# Altium integrated library ST Microcontroller 8-Bit.IntLib: 1326 symbols (part 21 of 45)
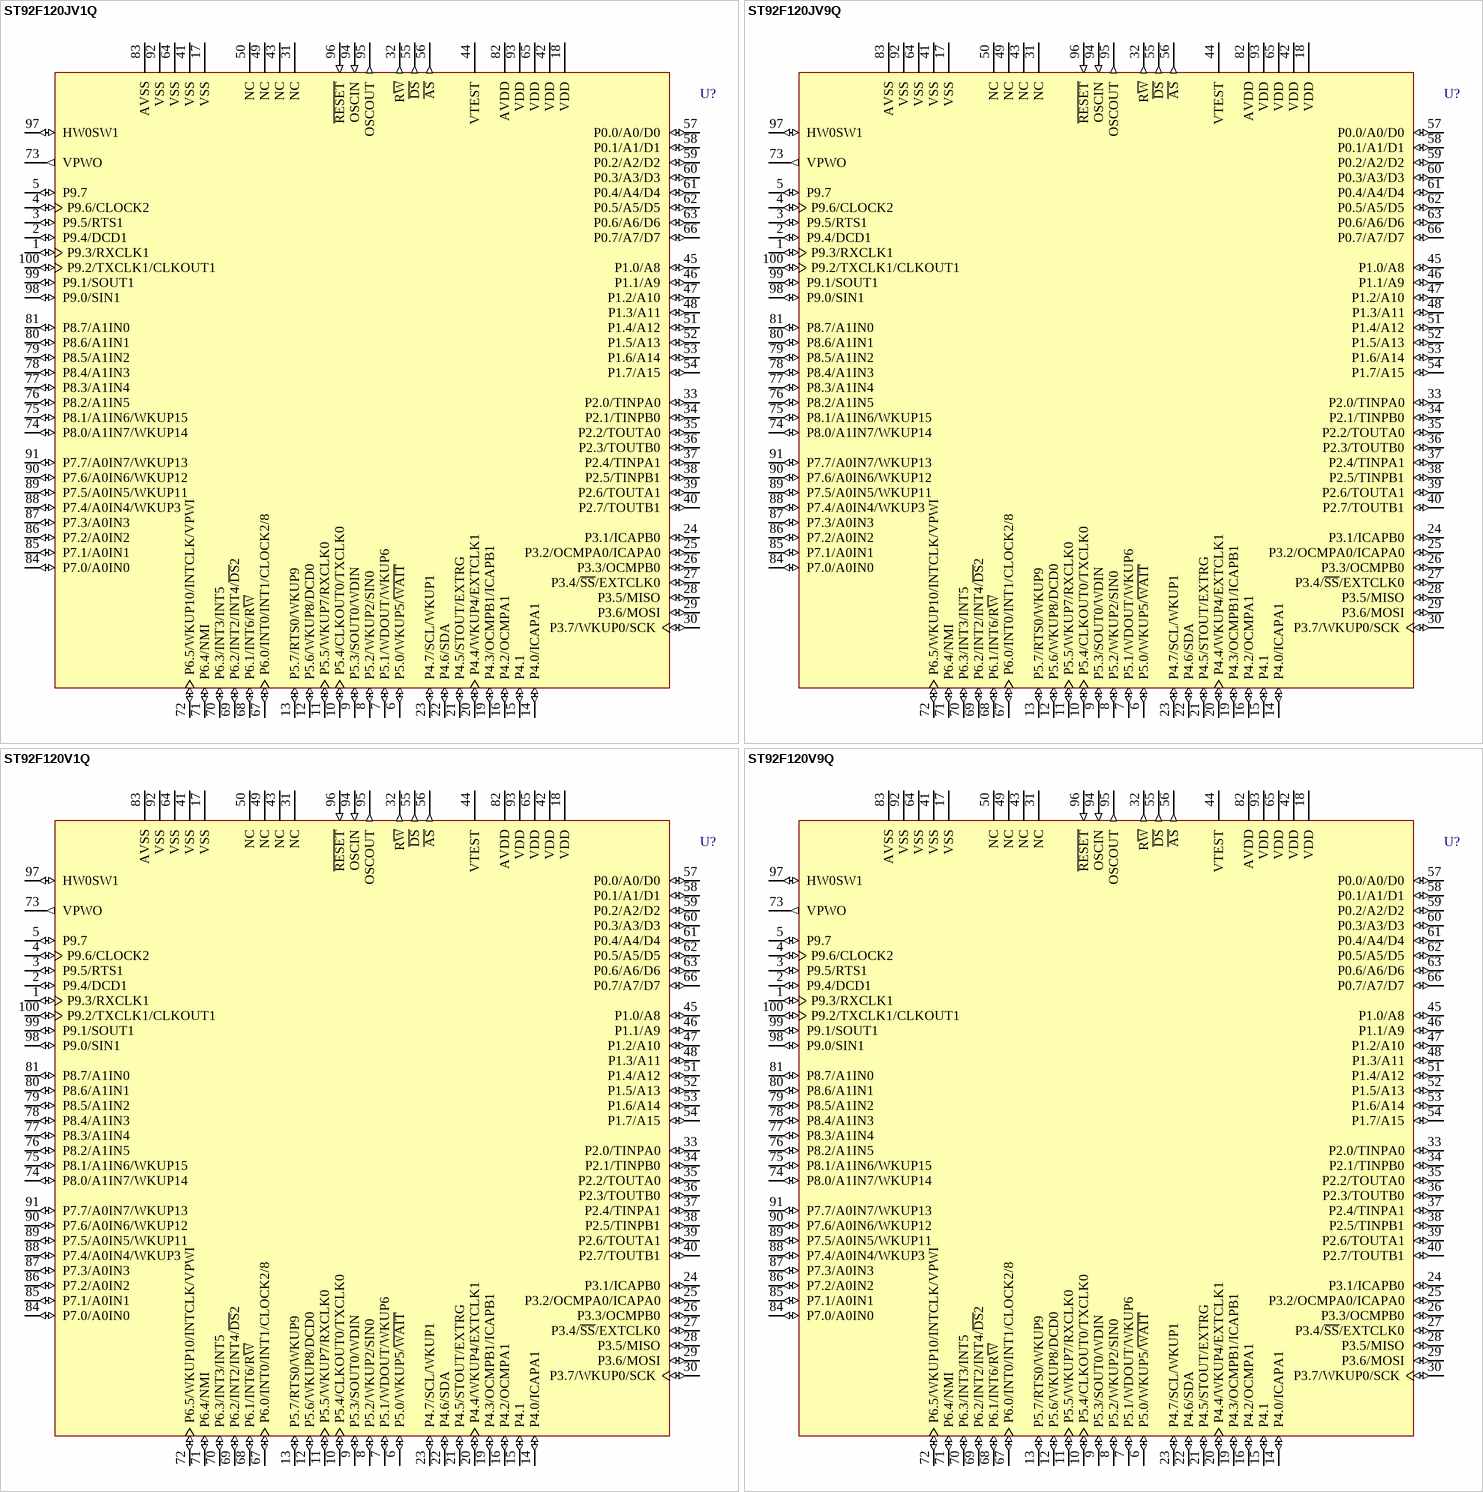
[diagram p187: symbols ST92F120JV1Q to ST92F120V9Q]

## ST92F120JV9Q
designator U?
8/16-Bit MCU with 60k FLASH, 2k RAM, 1k EEPROM and J1850 BLPD, 100-Pin PQFP; Note: VTEST must be kept low in standard operating mode.; Published: 26-May-2004; LatestRevisionDate: 13-Apr-2006; LatestRevisionNote: IPC-7351 Footprint Added.; DatasheetVersion: rev2.6, Sep-2002; PackageVersion: Jun-2003; PackageReference: PQFP100; Publisher: Altium Limited; PackageDescription: 100-Pin Plastic Quad Flat Pack Rectangular 0.65 mm Pitch; Code_IPC: QFP65P1720X2320-100; ComponentLink1Description: Manufacturer Link; ComponentLink1URL: http://www.st.com/
footprint PQFP100_N (QFP, 100-Leads, Body 20x14mm, Pitch 0.65mm, IPC Medium Density)
footprint PQFP100_L (QFP, 100-Leads, Body 20x14mm, Pitch 0.65mm, IPC High Density)
footprint PQFP100_M (QFP, 100-Leads, Body 20x14mm, Pitch 0.65mm, IPC Low Density)
3D model ST92F120-PQFP100 (100-Pin Plastic Quad Flat Pack Rectangular 0.65 mm Pitch)
pins: 1 P9.3/RXCLK1 (io), 2 P9.4/DCD1 (io), 3 P9.5/RTS1 (io), 4 P9.6/CLOCK2 (io), 5 P9.7 (io), 6 P5.0/WKUP5/~{WAIT} (io), 7 P5.1/WDOUT/WKUP6 (io), 8 P5.2/WKUP2/SIN0 (io), 9 P5.3/SOUT0/WDIN (io), 10 P5.4/CLKOUT0/TXCLK0 (io), 11 P5.5/WKUP7/RXCLK0 (io), 12 P5.6/WKUP8/DCD0 (io), 13 P5.7/RTS0/WKUP9 (io), 14 P4.0/ICAPA1 (io), 15 P4.1 (io), 16 P4.2/OCMPA1 (io), 17 VSS (power), 18 VDD (power), 19 P4.3/OCMPB1/ICAPB1 (io), 20 P4.4/WKUP4/EXTCLK1 (io), 21 P4.5/STOUT/EXTRG (io), 22 P4.6/SDA (io), 23 P4.7/SCL/WKUP1 (io), 24 P3.1/ICAPB0 (io), 25 P3.2/OCMPA0/ICAPA0 (io), 26 P3.3/OCMPB0 (io), 27 P3.4/~{SS}/EXTCLK0 (io), 28 P3.5/MISO (io), 29 P3.6/MOSI (io), 30 P3.7/WKUP0/SCK (io), 31 NC, 32 R~{W} (out), 33 P2.0/TINPA0 (io), 34 P2.1/TINPB0 (io), 35 P2.2/TOUTA0 (io), 36 P2.3/TOUTB0 (io), 37 P2.4/TINPA1 (io), 38 P2.5/TINPB1 (io), 39 P2.6/TOUTA1 (io), 40 P2.7/TOUTB1 (io), 41 VSS (power), 42 VDD (power), 43 NC, 44 VTEST (power), 45 P1.0/A8 (io), 46 P1.1/A9 (io), 47 P1.2/A10 (io), 48 P1.3/A11 (io), 49 NC, 50 NC, 51 P1.4/A12 (io), 52 P1.5/A13 (io), 53 P1.6/A14 (io), 54 P1.7/A15 (io), 55 ~{DS} (out), 56 ~{AS} (out), 57 P0.0/A0/D0 (io), 58 P0.1/A1/D1 (io), 59 P0.2/A2/D2 (io), 60 P0.3/A3/D3 (io), 61 P0.4/A4/D4 (io), 62 P0.5/A5/D5 (io), 63 P0.6/A6/D6 (io), 64 VSS (power), 65 VDD (power), 66 P0.7/A7/D7 (io), 67 P6.0/INT0/INT1/CLOCK2/8 (io), 68 P6.1/INT6/R~{W} (io), 69 P6.2/INT2/INT4/~{DS}2 (io), 70 P6.3/INT3/INT5 (io), 71 P6.4/NMI (io), 72 P6.5/WKUP10/INTCLK/VPWI (io), 73 VPWO (out), 74 P8.0/A1IN7/WKUP14 (io), 75 P8.1/A1IN6/WKUP15 (io), 76 P8.2/A1IN5 (io), 77 P8.3/A1IN4 (io), 78 P8.4/A1IN3 (io), 79 P8.5/A1IN2 (io), 80 P8.6/A1IN1 (io), 81 P8.7/A1IN0 (io), 82 AVDD (power), 83 AVSS (power), 84 P7.0/A0IN0 (io), 85 P7.1/A0IN1 (io), 86 P7.2/A0IN2 (io), 87 P7.3/A0IN3 (io), 88 P7.4/A0IN4/WKUP3 (io), 89 P7.5/A0IN5/WKUP11 (io), 90 P7.6/A0IN6/WKUP12 (io), 91 P7.7/A0IN7/WKUP13 (io), 92 VSS (power), 93 VDD (power), 94 OSCIN (in), 95 OSCOUT (out), 96 ~{RESET} (in), 97 HW0SW1 (io), 98 P9.0/SIN1 (io), 99 P9.1/SOUT1 (io), 100 P9.2/TXCLK1/CLKOUT1 (io)

## ST92F120V1Q
designator U?
8/16-Bit MCU with 128k FLASH, 2k RAM and 1k EEPROM, 100-Pin PQFP; Note: VTEST must be kept low in standard operating mode.; Published: 26-May-2004; LatestRevisionDate: 13-Apr-2006; LatestRevisionNote: IPC-7351 Footprint Added.; DatasheetVersion: rev2.6, Sep-2002; PackageVersion: Jun-2003; PackageReference: PQFP100; Publisher: Altium Limited; PackageDescription: 100-Pin Plastic Quad Flat Pack Rectangular 0.65 mm Pitch; Code_IPC: QFP65P1720X2320-100; ComponentLink1Description: Manufacturer Link; ComponentLink1URL: http://www.st.com/
footprint PQFP100_N (QFP, 100-Leads, Body 20x14mm, Pitch 0.65mm, IPC Medium Density)
footprint PQFP100_L (QFP, 100-Leads, Body 20x14mm, Pitch 0.65mm, IPC High Density)
footprint PQFP100_M (QFP, 100-Leads, Body 20x14mm, Pitch 0.65mm, IPC Low Density)
3D model ST92F120-PQFP100 (100-Pin Plastic Quad Flat Pack Rectangular 0.65 mm Pitch)
pins: 1 P9.3/RXCLK1 (io), 2 P9.4/DCD1 (io), 3 P9.5/RTS1 (io), 4 P9.6/CLOCK2 (io), 5 P9.7 (io), 6 P5.0/WKUP5/~{WAIT} (io), 7 P5.1/WDOUT/WKUP6 (io), 8 P5.2/WKUP2/SIN0 (io), 9 P5.3/SOUT0/WDIN (io), 10 P5.4/CLKOUT0/TXCLK0 (io), 11 P5.5/WKUP7/RXCLK0 (io), 12 P5.6/WKUP8/DCD0 (io), 13 P5.7/RTS0/WKUP9 (io), 14 P4.0/ICAPA1 (io), 15 P4.1 (io), 16 P4.2/OCMPA1 (io), 17 VSS (power), 18 VDD (power), 19 P4.3/OCMPB1/ICAPB1 (io), 20 P4.4/WKUP4/EXTCLK1 (io), 21 P4.5/STOUT/EXTRG (io), 22 P4.6/SDA (io), 23 P4.7/SCL/WKUP1 (io), 24 P3.1/ICAPB0 (io), 25 P3.2/OCMPA0/ICAPA0 (io), 26 P3.3/OCMPB0 (io), 27 P3.4/~{SS}/EXTCLK0 (io), 28 P3.5/MISO (io), 29 P3.6/MOSI (io), 30 P3.7/WKUP0/SCK (io), 31 NC, 32 R~{W} (out), 33 P2.0/TINPA0 (io), 34 P2.1/TINPB0 (io), 35 P2.2/TOUTA0 (io), 36 P2.3/TOUTB0 (io), 37 P2.4/TINPA1 (io), 38 P2.5/TINPB1 (io), 39 P2.6/TOUTA1 (io), 40 P2.7/TOUTB1 (io), 41 VSS (power), 42 VDD (power), 43 NC, 44 VTEST (power), 45 P1.0/A8 (io), 46 P1.1/A9 (io), 47 P1.2/A10 (io), 48 P1.3/A11 (io), 49 NC, 50 NC, 51 P1.4/A12 (io), 52 P1.5/A13 (io), 53 P1.6/A14 (io), 54 P1.7/A15 (io), 55 ~{DS} (out), 56 ~{AS} (out), 57 P0.0/A0/D0 (io), 58 P0.1/A1/D1 (io), 59 P0.2/A2/D2 (io), 60 P0.3/A3/D3 (io), 61 P0.4/A4/D4 (io), 62 P0.5/A5/D5 (io), 63 P0.6/A6/D6 (io), 64 VSS (power), 65 VDD (power), 66 P0.7/A7/D7 (io), 67 P6.0/INT0/INT1/CLOCK2/8 (io), 68 P6.1/INT6/R~{W} (io), 69 P6.2/INT2/INT4/~{DS}2 (io), 70 P6.3/INT3/INT5 (io), 71 P6.4/NMI (io), 72 P6.5/WKUP10/INTCLK/VPWI (io), 73 VPWO (out), 74 P8.0/A1IN7/WKUP14 (io), 75 P8.1/A1IN6/WKUP15 (io), 76 P8.2/A1IN5 (io), 77 P8.3/A1IN4 (io), 78 P8.4/A1IN3 (io), 79 P8.5/A1IN2 (io), 80 P8.6/A1IN1 (io), 81 P8.7/A1IN0 (io), 82 AVDD (power), 83 AVSS (power), 84 P7.0/A0IN0 (io), 85 P7.1/A0IN1 (io), 86 P7.2/A0IN2 (io), 87 P7.3/A0IN3 (io), 88 P7.4/A0IN4/WKUP3 (io), 89 P7.5/A0IN5/WKUP11 (io), 90 P7.6/A0IN6/WKUP12 (io), 91 P7.7/A0IN7/WKUP13 (io), 92 VSS (power), 93 VDD (power), 94 OSCIN (in), 95 OSCOUT (out), 96 ~{RESET} (in), 97 HW0SW1 (io), 98 P9.0/SIN1 (io), 99 P9.1/SOUT1 (io), 100 P9.2/TXCLK1/CLKOUT1 (io)

## ST92F120V9Q
designator U?
8/16-Bit MCU with 60k FLASH, 2k RAM and 1k EEPROM, 100-Pin PQFP; Note: VTEST must be kept low in standard operating mode.; Published: 26-May-2004; LatestRevisionDate: 13-Apr-2006; LatestRevisionNote: IPC-7351 Footprint Added.; DatasheetVersion: rev2.6, Sep-2002; PackageVersion: Jun-2003; PackageReference: PQFP100; Publisher: Altium Limited; PackageDescription: 100-Pin Plastic Quad Flat Pack Rectangular 0.65 mm Pitch; Code_IPC: QFP65P1720X2320-100; ComponentLink1Description: Manufacturer Link; ComponentLink1URL: http://www.st.com/
footprint PQFP100_N (QFP, 100-Leads, Body 20x14mm, Pitch 0.65mm, IPC Medium Density)
footprint PQFP100_L (QFP, 100-Leads, Body 20x14mm, Pitch 0.65mm, IPC High Density)
footprint PQFP100_M (QFP, 100-Leads, Body 20x14mm, Pitch 0.65mm, IPC Low Density)
3D model ST92F120-PQFP100 (100-Pin Plastic Quad Flat Pack Rectangular 0.65 mm Pitch)
pins: 1 P9.3/RXCLK1 (io), 2 P9.4/DCD1 (io), 3 P9.5/RTS1 (io), 4 P9.6/CLOCK2 (io), 5 P9.7 (io), 6 P5.0/WKUP5/~{WAIT} (io), 7 P5.1/WDOUT/WKUP6 (io), 8 P5.2/WKUP2/SIN0 (io), 9 P5.3/SOUT0/WDIN (io), 10 P5.4/CLKOUT0/TXCLK0 (io), 11 P5.5/WKUP7/RXCLK0 (io), 12 P5.6/WKUP8/DCD0 (io), 13 P5.7/RTS0/WKUP9 (io), 14 P4.0/ICAPA1 (io), 15 P4.1 (io), 16 P4.2/OCMPA1 (io), 17 VSS (power), 18 VDD (power), 19 P4.3/OCMPB1/ICAPB1 (io), 20 P4.4/WKUP4/EXTCLK1 (io), 21 P4.5/STOUT/EXTRG (io), 22 P4.6/SDA (io), 23 P4.7/SCL/WKUP1 (io), 24 P3.1/ICAPB0 (io), 25 P3.2/OCMPA0/ICAPA0 (io), 26 P3.3/OCMPB0 (io), 27 P3.4/~{SS}/EXTCLK0 (io), 28 P3.5/MISO (io), 29 P3.6/MOSI (io), 30 P3.7/WKUP0/SCK (io), 31 NC, 32 R~{W} (out), 33 P2.0/TINPA0 (io), 34 P2.1/TINPB0 (io), 35 P2.2/TOUTA0 (io), 36 P2.3/TOUTB0 (io), 37 P2.4/TINPA1 (io), 38 P2.5/TINPB1 (io), 39 P2.6/TOUTA1 (io), 40 P2.7/TOUTB1 (io), 41 VSS (power), 42 VDD (power), 43 NC, 44 VTEST (power), 45 P1.0/A8 (io), 46 P1.1/A9 (io), 47 P1.2/A10 (io), 48 P1.3/A11 (io), 49 NC, 50 NC, 51 P1.4/A12 (io), 52 P1.5/A13 (io), 53 P1.6/A14 (io), 54 P1.7/A15 (io), 55 ~{DS} (out), 56 ~{AS} (out), 57 P0.0/A0/D0 (io), 58 P0.1/A1/D1 (io), 59 P0.2/A2/D2 (io), 60 P0.3/A3/D3 (io), 61 P0.4/A4/D4 (io), 62 P0.5/A5/D5 (io), 63 P0.6/A6/D6 (io), 64 VSS (power), 65 VDD (power), 66 P0.7/A7/D7 (io), 67 P6.0/INT0/INT1/CLOCK2/8 (io), 68 P6.1/INT6/R~{W} (io), 69 P6.2/INT2/INT4/~{DS}2 (io), 70 P6.3/INT3/INT5 (io), 71 P6.4/NMI (io), 72 P6.5/WKUP10/INTCLK/VPWI (io), 73 VPWO (out), 74 P8.0/A1IN7/WKUP14 (io), 75 P8.1/A1IN6/WKUP15 (io), 76 P8.2/A1IN5 (io), 77 P8.3/A1IN4 (io), 78 P8.4/A1IN3 (io), 79 P8.5/A1IN2 (io), 80 P8.6/A1IN1 (io), 81 P8.7/A1IN0 (io), 82 AVDD (power), 83 AVSS (power), 84 P7.0/A0IN0 (io), 85 P7.1/A0IN1 (io), 86 P7.2/A0IN2 (io), 87 P7.3/A0IN3 (io), 88 P7.4/A0IN4/WKUP3 (io), 89 P7.5/A0IN5/WKUP11 (io), 90 P7.6/A0IN6/WKUP12 (io), 91 P7.7/A0IN7/WKUP13 (io), 92 VSS (power), 93 VDD (power), 94 OSCIN (in), 95 OSCOUT (out), 96 ~{RESET} (in), 97 HW0SW1 (io), 98 P9.0/SIN1 (io), 99 P9.1/SOUT1 (io), 100 P9.2/TXCLK1/CLKOUT1 (io)

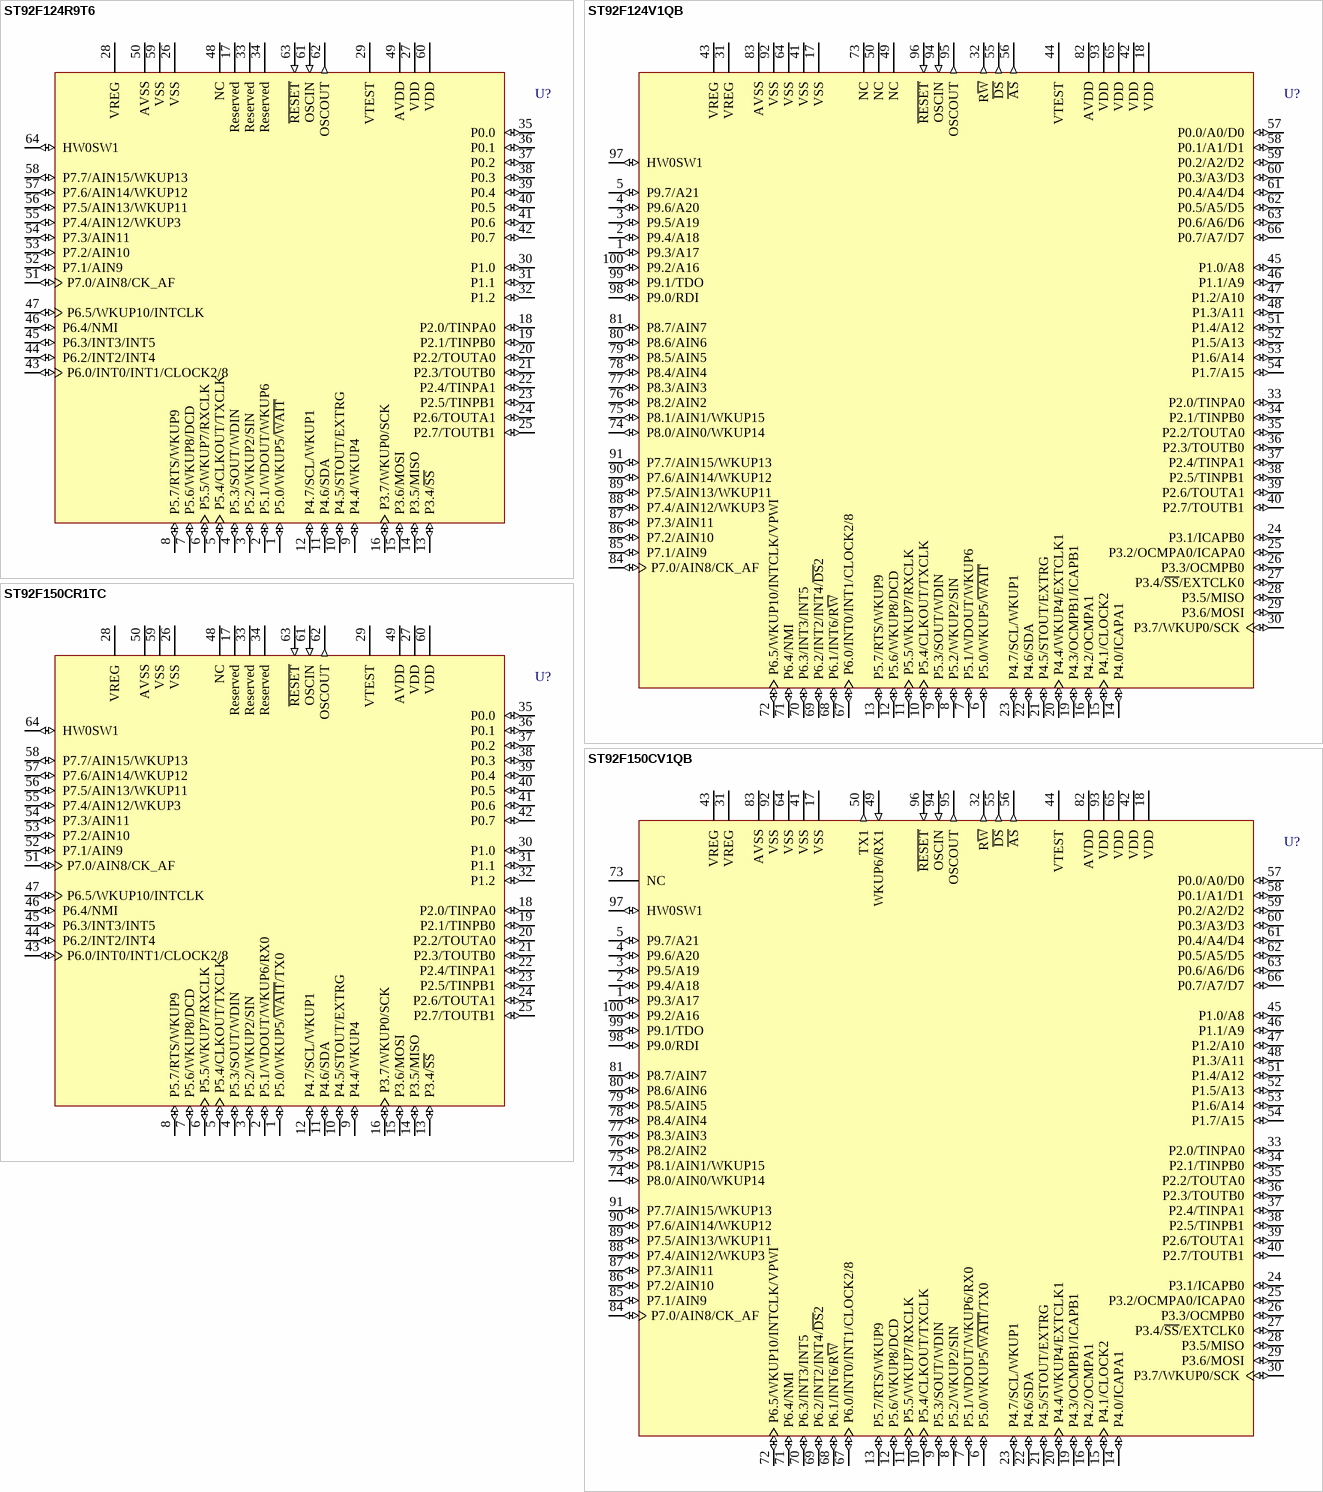
[diagram p73: symbols ST92F124R9T6 to ST92F150CV1QB]

## ST92F124R9T6
designator U?
8/16-Bit MCU with 64k Single Voltage FLASH Memory, 2k RAM, 1k E³PROM, ADC, Timers, SPI, I²C and SCI, 64-Pin TQFP; Note: Pins 17, 33 and 34 are reserved for ST tests.  Leave unconnected.; Published: 26-May-2004; LatestRevisionDate: 13-Apr-2006; LatestRevisionNote: IPC-7351 Footprint Added.; DatasheetVersion: rev1.3, Dec-2002; PackageVersion: rev2.4, Jan-2002; PackageReference: TQFP64-0.8; Publisher: Altium Limited; PackageDescription: 64-Pin Thin Quad Flat Pack 0.8 mm Pitch; ComponentLink1Description: Manufacturer Link; ComponentLink1URL: http://www.st.com/; ComponentLink2Description: Datasheet; ComponentLink2URL: http://www.st.com/stonline/products/literature/ds/8848/st92f124.pdf
footprint TQFP64-0.8_N (Thin QFP, 64-Leads, Body 14x14mm, Pitch 0.8mm, IPC Medium Density)
footprint TQFP64-0.8_L (Thin QFP, 64-Leads, Body 14x14mm, Pitch 0.8mm, IPC High Density)
footprint TQFP64-0.8_M (Thin QFP, 64-Leads, Body 14x14mm, Pitch 0.8mm, IPC Low Density)
3D model ST92F124-TQFP64-0_8 (64-Pin Thin Quad Flat Pack 0.8 mm Pitch)
pins: 1 P5.0/WKUP5/~{WAIT} (io), 2 P5.1/WDOUT/WKUP6 (io), 3 P5.2/WKUP2/SIN (io), 4 P5.3/SOUT/WDIN (io), 5 P5.4/CLKOUT/TXCLK (io), 6 P5.5/WKUP7/RXCLK (io), 7 P5.6/WKUP8/DCD (io), 8 P5.7/RTS/WKUP9 (io), 9 P4.4/WKUP4 (io), 10 P4.5/STOUT/EXTRG (io), 11 P4.6/SDA (io), 12 P4.7/SCL/WKUP1 (io), 13 P3.4/~{SS} (io), 14 P3.5/MISO (io), 15 P3.6/MOSI (io), 16 P3.7/WKUP0/SCK (io), 17 Reserved, 18 P2.0/TINPA0 (io), 19 P2.1/TINPB0 (io), 20 P2.2/TOUTA0 (io), 21 P2.3/TOUTB0 (io), 22 P2.4/TINPA1 (io), 23 P2.5/TINPB1 (io), 24 P2.6/TOUTA1 (io), 25 P2.7/TOUTB1 (io), 26 VSS (power), 27 VDD (power), 28 VREG (power), 29 VTEST (power), 30 P1.0 (io), 31 P1.1 (io), 32 P1.2 (io), 33 Reserved, 34 Reserved, 35 P0.0 (io), 36 P0.1 (io), 37 P0.2 (io), 38 P0.3 (io), 39 P0.4 (io), 40 P0.5 (io), 41 P0.6 (io), 42 P0.7 (io), 43 P6.0/INT0/INT1/CLOCK2/8 (io), 44 P6.2/INT2/INT4 (io), 45 P6.3/INT3/INT5 (io), 46 P6.4/NMI (io), 47 P6.5/WKUP10/INTCLK (io), 48 NC, 49 AVDD (power), 50 AVSS (power), 51 P7.0/AIN8/CK_AF (io), 52 P7.1/AIN9 (io), 53 P7.2/AIN10 (io), 54 P7.3/AIN11 (io), 55 P7.4/AIN12/WKUP3 (io), 56 P7.5/AIN13/WKUP11 (io), 57 P7.6/AIN14/WKUP12 (io), 58 P7.7/AIN15/WKUP13 (io), 59 VSS (power), 60 VDD (power), 61 OSCIN (in), 62 OSCOUT (out), 63 ~{RESET} (in), 64 HW0SW1 (io)

## ST92F124V1QB
designator U?
8/16-Bit MCU with 128k Single Voltage FLASH Memory, 4k RAM, 1k E³PROM, ADC, Timers, SPI, I²C and SCI, 100-Pin PQFP; Note: VTEST must be kept low in standard operating mode.; Published: 26-May-2004; LatestRevisionDate: 13-Apr-2006; LatestRevisionNote: IPC-7351 Footprint Added.; DatasheetVersion: rev1.3, Dec-2002; PackageVersion: Jun-2003; PackageReference: PQFP100; Publisher: Altium Limited; PackageDescription: 100-Pin Plastic Quad Flat Pack Rectangular 0.65 mm Pitch; Code_IPC: QFP65P1720X2320-100; ComponentLink1Description: Manufacturer Link; ComponentLink1URL: http://www.st.com/; ComponentLink2Description: Datasheet; ComponentLink2URL: http://www.st.com/stonline/products/literature/ds/8848/st92f124.pdf
footprint PQFP100_N (QFP, 100-Leads, Body 20x14mm, Pitch 0.65mm, IPC Medium Density)
footprint PQFP100_L (QFP, 100-Leads, Body 20x14mm, Pitch 0.65mm, IPC High Density)
footprint PQFP100_M (QFP, 100-Leads, Body 20x14mm, Pitch 0.65mm, IPC Low Density)
3D model ST92F124-PQFP100 (100-Pin Plastic Quad Flat Pack Rectangular 0.65 mm Pitch)
pins: 1 P9.3/A17 (io), 2 P9.4/A18 (io), 3 P9.5/A19 (io), 4 P9.6/A20 (io), 5 P9.7/A21 (io), 6 P5.0/WKUP5/~{WAIT} (io), 7 P5.1/WDOUT/WKUP6 (io), 8 P5.2/WKUP2/SIN (io), 9 P5.3/SOUT/WDIN (io), 10 P5.4/CLKOUT/TXCLK (io), 11 P5.5/WKUP7/RXCLK (io), 12 P5.6/WKUP8/DCD (io), 13 P5.7/RTS/WKUP9 (io), 14 P4.0/ICAPA1 (io), 15 P4.1/CLOCK2 (io), 16 P4.2/OCMPA1 (io), 17 VSS (power), 18 VDD (power), 19 P4.3/OCMPB1/ICAPB1 (io), 20 P4.4/WKUP4/EXTCLK1 (io), 21 P4.5/STOUT/EXTRG (io), 22 P4.6/SDA (io), 23 P4.7/SCL/WKUP1 (io), 24 P3.1/ICAPB0 (io), 25 P3.2/OCMPA0/ICAPA0 (io), 26 P3.3/OCMPB0 (io), 27 P3.4/~{SS}/EXTCLK0 (io), 28 P3.5/MISO (io), 29 P3.6/MOSI (io), 30 P3.7/WKUP0/SCK (io), 31 VREG (power), 32 R~{W} (out), 33 P2.0/TINPA0 (io), 34 P2.1/TINPB0 (io), 35 P2.2/TOUTA0 (io), 36 P2.3/TOUTB0 (io), 37 P2.4/TINPA1 (io), 38 P2.5/TINPB1 (io), 39 P2.6/TOUTA1 (io), 40 P2.7/TOUTB1 (io), 41 VSS (power), 42 VDD (power), 43 VREG (power), 44 VTEST (power), 45 P1.0/A8 (io), 46 P1.1/A9 (io), 47 P1.2/A10 (io), 48 P1.3/A11 (io), 49 NC, 50 NC, 51 P1.4/A12 (io), 52 P1.5/A13 (io), 53 P1.6/A14 (io), 54 P1.7/A15 (io), 55 ~{DS} (out), 56 ~{AS} (out), 57 P0.0/A0/D0 (io), 58 P0.1/A1/D1 (io), 59 P0.2/A2/D2 (io), 60 P0.3/A3/D3 (io), 61 P0.4/A4/D4 (io), 62 P0.5/A5/D5 (io), 63 P0.6/A6/D6 (io), 64 VSS (power), 65 VDD (power), 66 P0.7/A7/D7 (io), 67 P6.0/INT0/INT1/CLOCK2/8 (io), 68 P6.1/INT6/R~{W} (io), 69 P6.2/INT2/INT4/~{DS}2 (io), 70 P6.3/INT3/INT5 (io), 71 P6.4/NMI (io), 72 P6.5/WKUP10/INTCLK/VPWI (io), 73 NC, 74 P8.0/AIN0/WKUP14 (io), 75 P8.1/AIN1/WKUP15 (io), 76 P8.2/AIN2 (io), 77 P8.3/AIN3 (io), 78 P8.4/AIN4 (io), 79 P8.5/AIN5 (io), 80 P8.6/AIN6 (io), 81 P8.7/AIN7 (io), 82 AVDD (power), 83 AVSS (power), 84 P7.0/AIN8/CK_AF (io), 85 P7.1/AIN9 (io), 86 P7.2/AIN10 (io), 87 P7.3/AIN11 (io), 88 P7.4/AIN12/WKUP3 (io), 89 P7.5/AIN13/WKUP11 (io), 90 P7.6/AIN14/WKUP12 (io), 91 P7.7/AIN15/WKUP13 (io), 92 VSS (power), 93 VDD (power), 94 OSCIN (in), 95 OSCOUT (out), 96 ~{RESET} (in), 97 HW0SW1 (io), 98 P9.0/RDI (io), 99 P9.1/TDO (io), 100 P9.2/A16 (io)

## ST92F150CR1TC
designator U?
8/16-Bit MCU with 128k Single Voltage FLASH Memory, 4k RAM, 1k E³PROM, ADC, CAN, Timers, SPI, I²C and SCI, 64-Pin TQFP; Note: Pins 17, 33 and 34 are reserved for ST tests.  Leave unconnected.; Published: 26-May-2004; LatestRevisionDate: 13-Apr-2006; LatestRevisionNote: IPC-7351 Footprint Added.; DatasheetVersion: rev1.3, Dec-2002; PackageVersion: rev2.4, Jan-2002; PackageReference: TQFP64-0.8; Publisher: Altium Limited; PackageDescription: 64-Pin Thin Quad Flat Pack 0.8 mm Pitch; ComponentLink1Description: Manufacturer Link; ComponentLink1URL: http://www.st.com/; ComponentLink2Description: Datasheet; ComponentLink2URL: http://www.st.com/stonline/products/literature/ds/8848/st92f150.pdf
footprint TQFP64-0.8_N (Thin QFP, 64-Leads, Body 14x14mm, Pitch 0.8mm, IPC Medium Density)
footprint TQFP64-0.8_L (Thin QFP, 64-Leads, Body 14x14mm, Pitch 0.8mm, IPC High Density)
footprint TQFP64-0.8_M (Thin QFP, 64-Leads, Body 14x14mm, Pitch 0.8mm, IPC Low Density)
3D model ST92F150-TQFP64-0_8 (64-Pin Thin Quad Flat Pack 0.8 mm Pitch)
pins: 1 P5.0/WKUP5/~{WAIT}/TX0 (io), 2 P5.1/WDOUT/WKUP6/RX0 (io), 3 P5.2/WKUP2/SIN (io), 4 P5.3/SOUT/WDIN (io), 5 P5.4/CLKOUT/TXCLK (io), 6 P5.5/WKUP7/RXCLK (io), 7 P5.6/WKUP8/DCD (io), 8 P5.7/RTS/WKUP9 (io), 9 P4.4/WKUP4 (io), 10 P4.5/STOUT/EXTRG (io), 11 P4.6/SDA (io), 12 P4.7/SCL/WKUP1 (io), 13 P3.4/~{SS} (io), 14 P3.5/MISO (io), 15 P3.6/MOSI (io), 16 P3.7/WKUP0/SCK (io), 17 Reserved, 18 P2.0/TINPA0 (io), 19 P2.1/TINPB0 (io), 20 P2.2/TOUTA0 (io), 21 P2.3/TOUTB0 (io), 22 P2.4/TINPA1 (io), 23 P2.5/TINPB1 (io), 24 P2.6/TOUTA1 (io), 25 P2.7/TOUTB1 (io), 26 VSS (power), 27 VDD (power), 28 VREG (power), 29 VTEST (power), 30 P1.0 (io), 31 P1.1 (io), 32 P1.2 (io), 33 Reserved, 34 Reserved, 35 P0.0 (io), 36 P0.1 (io), 37 P0.2 (io), 38 P0.3 (io), 39 P0.4 (io), 40 P0.5 (io), 41 P0.6 (io), 42 P0.7 (io), 43 P6.0/INT0/INT1/CLOCK2/8 (io), 44 P6.2/INT2/INT4 (io), 45 P6.3/INT3/INT5 (io), 46 P6.4/NMI (io), 47 P6.5/WKUP10/INTCLK (io), 48 NC, 49 AVDD (power), 50 AVSS (power), 51 P7.0/AIN8/CK_AF (io), 52 P7.1/AIN9 (io), 53 P7.2/AIN10 (io), 54 P7.3/AIN11 (io), 55 P7.4/AIN12/WKUP3 (io), 56 P7.5/AIN13/WKUP11 (io), 57 P7.6/AIN14/WKUP12 (io), 58 P7.7/AIN15/WKUP13 (io), 59 VSS (power), 60 VDD (power), 61 OSCIN (in), 62 OSCOUT (out), 63 ~{RESET} (in), 64 HW0SW1 (io)

## ST92F150CV1QB
designator U?
8/16-Bit MCU with 128k Single Voltage FLASH Memory, 4k RAM, 1k E³PROM, ADC, CAN, Timers, SPI, I²C and SCI, 100-Pin PQFP; Note: VTEST must be kept low in standard operating mode.; Published: 26-May-2004; LatestRevisionDate: 13-Apr-2006; LatestRevisionNote: IPC-7351 Footprint Added.; DatasheetVersion: rev1.3, Dec-2002; PackageVersion: Jun-2003; PackageReference: PQFP100; Publisher: Altium Limited; PackageDescription: 100-Pin Plastic Quad Flat Pack Rectangular 0.65 mm Pitch; Code_IPC: QFP65P1720X2320-100; ComponentLink1Description: Manufacturer Link; ComponentLink1URL: http://www.st.com/; ComponentLink2Description: Datasheet; ComponentLink2URL: http://www.st.com/stonline/products/literature/ds/8848/st92f150.pdf
footprint PQFP100_N (QFP, 100-Leads, Body 20x14mm, Pitch 0.65mm, IPC Medium Density)
footprint PQFP100_L (QFP, 100-Leads, Body 20x14mm, Pitch 0.65mm, IPC High Density)
footprint PQFP100_M (QFP, 100-Leads, Body 20x14mm, Pitch 0.65mm, IPC Low Density)
3D model ST92F150-PQFP100 (100-Pin Plastic Quad Flat Pack Rectangular 0.65 mm Pitch)
pins: 1 P9.3/A17 (io), 2 P9.4/A18 (io), 3 P9.5/A19 (io), 4 P9.6/A20 (io), 5 P9.7/A21 (io), 6 P5.0/WKUP5/~{WAIT}/TX0 (io), 7 P5.1/WDOUT/WKUP6/RX0 (io), 8 P5.2/WKUP2/SIN (io), 9 P5.3/SOUT/WDIN (io), 10 P5.4/CLKOUT/TXCLK (io), 11 P5.5/WKUP7/RXCLK (io), 12 P5.6/WKUP8/DCD (io), 13 P5.7/RTS/WKUP9 (io), 14 P4.0/ICAPA1 (io), 15 P4.1/CLOCK2 (io), 16 P4.2/OCMPA1 (io), 17 VSS (power), 18 VDD (power), 19 P4.3/OCMPB1/ICAPB1 (io), 20 P4.4/WKUP4/EXTCLK1 (io), 21 P4.5/STOUT/EXTRG (io), 22 P4.6/SDA (io), 23 P4.7/SCL/WKUP1 (io), 24 P3.1/ICAPB0 (io), 25 P3.2/OCMPA0/ICAPA0 (io), 26 P3.3/OCMPB0 (io), 27 P3.4/~{SS}/EXTCLK0 (io), 28 P3.5/MISO (io), 29 P3.6/MOSI (io), 30 P3.7/WKUP0/SCK (io), 31 VREG (power), 32 R~{W} (out), 33 P2.0/TINPA0 (io), 34 P2.1/TINPB0 (io), 35 P2.2/TOUTA0 (io), 36 P2.3/TOUTB0 (io), 37 P2.4/TINPA1 (io), 38 P2.5/TINPB1 (io), 39 P2.6/TOUTA1 (io), 40 P2.7/TOUTB1 (io), 41 VSS (power), 42 VDD (power), 43 VREG (power), 44 VTEST (power), 45 P1.0/A8 (io), 46 P1.1/A9 (io), 47 P1.2/A10 (io), 48 P1.3/A11 (io), 49 WKUP6/RX1 (in), 50 TX1 (out), 51 P1.4/A12 (io), 52 P1.5/A13 (io), 53 P1.6/A14 (io), 54 P1.7/A15 (io), 55 ~{DS} (out), 56 ~{AS} (out), 57 P0.0/A0/D0 (io), 58 P0.1/A1/D1 (io), 59 P0.2/A2/D2 (io), 60 P0.3/A3/D3 (io), 61 P0.4/A4/D4 (io), 62 P0.5/A5/D5 (io), 63 P0.6/A6/D6 (io), 64 VSS (power), 65 VDD (power), 66 P0.7/A7/D7 (io), 67 P6.0/INT0/INT1/CLOCK2/8 (io), 68 P6.1/INT6/R~{W} (io), 69 P6.2/INT2/INT4/~{DS}2 (io), 70 P6.3/INT3/INT5 (io), 71 P6.4/NMI (io), 72 P6.5/WKUP10/INTCLK/VPWI (io), 73 NC, 74 P8.0/AIN0/WKUP14 (io), 75 P8.1/AIN1/WKUP15 (io), 76 P8.2/AIN2 (io), 77 P8.3/AIN3 (io), 78 P8.4/AIN4 (io), 79 P8.5/AIN5 (io), 80 P8.6/AIN6 (io), 81 P8.7/AIN7 (io), 82 AVDD (power), 83 AVSS (power), 84 P7.0/AIN8/CK_AF (io), 85 P7.1/AIN9 (io), 86 P7.2/AIN10 (io), 87 P7.3/AIN11 (io), 88 P7.4/AIN12/WKUP3 (io), 89 P7.5/AIN13/WKUP11 (io), 90 P7.6/AIN14/WKUP12 (io), 91 P7.7/AIN15/WKUP13 (io), 92 VSS (power), 93 VDD (power), 94 OSCIN (in), 95 OSCOUT (out), 96 ~{RESET} (in), 97 HW0SW1 (io), 98 P9.0/RDI (io), 99 P9.1/TDO (io), 100 P9.2/A16 (io)

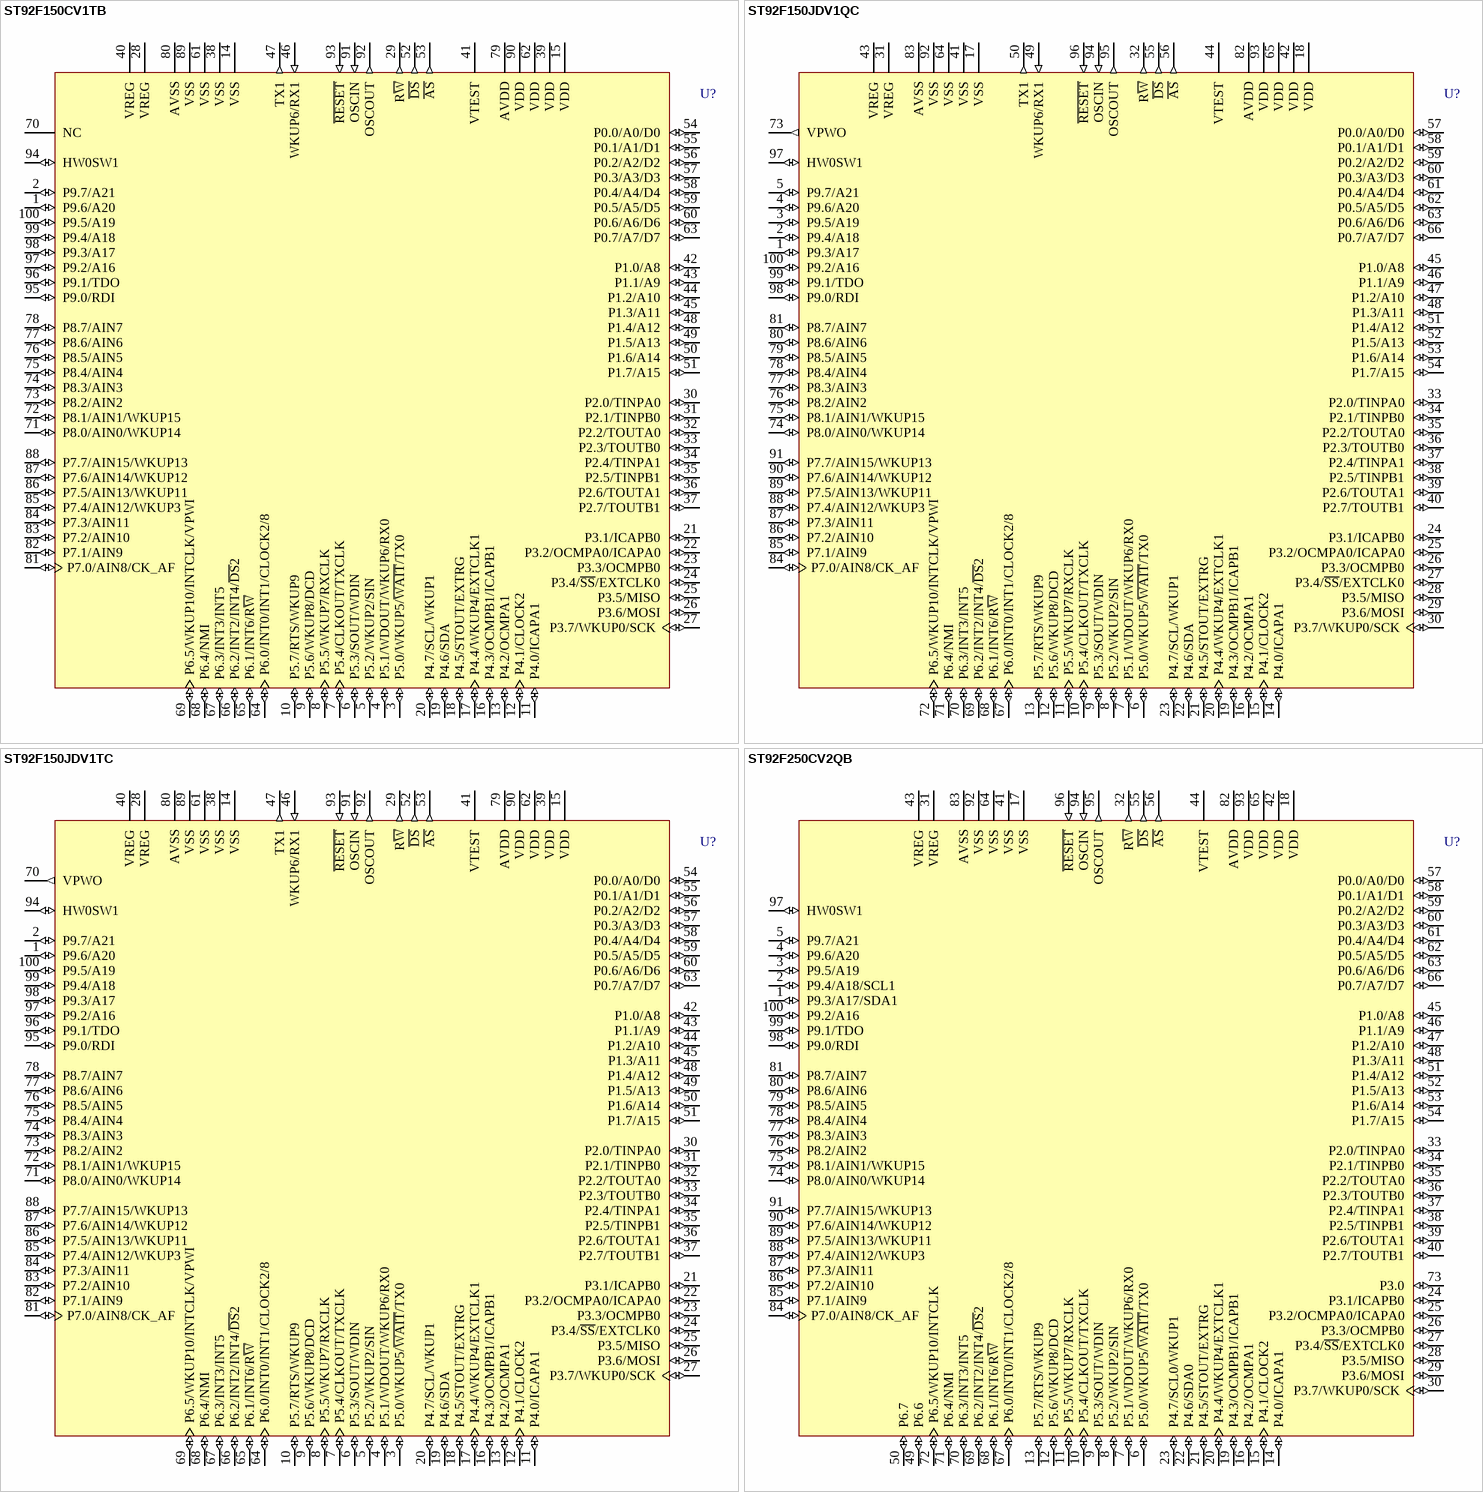
[diagram p74: symbols ST92F150CV1TB to ST92F250CV2QB]

## ST92F150CV1TB
designator U?
8/16-Bit MCU with 128k Single Voltage FLASH Memory, 4k RAM, 1k E³PROM, ADC, CAN, Timers, SPI, I²C and SCI, 100-Pin TQFP; Note: VTEST must be kept low in standard operating mode.; Published: 26-May-2004; LatestRevisionDate: 13-Apr-2006; LatestRevisionNote: IPC-7351 Footprint Added.; DatasheetVersion: rev1.3, Dec-2002; PackageVersion: Dec-2002; PackageReference: TQFP100; Publisher: Altium Limited; PackageDescription: 100-Pin Thin Quad Flat Pack 0.5 mm Pitch; ComponentLink1Description: Manufacturer Link; ComponentLink1URL: http://www.st.com/; ComponentLink2Description: Datasheet; ComponentLink2URL: http://www.st.com/stonline/products/literature/ds/8848/st92f150.pdf
footprint TQFP100_N (Thin QFP, 100-Leads, Body 14x14mm, Pitch 0.5mm, IPC Medium Density)
footprint TQFP100_L (Thin QFP, 100-Leads, Body 14x14mm, Pitch 0.5mm, IPC High Density)
footprint TQFP100_M (Thin QFP, 100-Leads, Body 14x14mm, Pitch 0.5mm, IPC Low Density)
3D model ST92F150-TQFP100 (100-Pin Thin Quad Flat Pack 0.5 mm Pitch)
pins: 1 P9.6/A20 (io), 2 P9.7/A21 (io), 3 P5.0/WKUP5/~{WAIT}/TX0 (io), 4 P5.1/WDOUT/WKUP6/RX0 (io), 5 P5.2/WKUP2/SIN (io), 6 P5.3/SOUT/WDIN (io), 7 P5.4/CLKOUT/TXCLK (io), 8 P5.5/WKUP7/RXCLK (io), 9 P5.6/WKUP8/DCD (io), 10 P5.7/RTS/WKUP9 (io), 11 P4.0/ICAPA1 (io), 12 P4.1/CLOCK2 (io), 13 P4.2/OCMPA1 (io), 14 VSS (power), 15 VDD (power), 16 P4.3/OCMPB1/ICAPB1 (io), 17 P4.4/WKUP4/EXTCLK1 (io), 18 P4.5/STOUT/EXTRG (io), 19 P4.6/SDA (io), 20 P4.7/SCL/WKUP1 (io), 21 P3.1/ICAPB0 (io), 22 P3.2/OCMPA0/ICAPA0 (io), 23 P3.3/OCMPB0 (io), 24 P3.4/~{SS}/EXTCLK0 (io), 25 P3.5/MISO (io), 26 P3.6/MOSI (io), 27 P3.7/WKUP0/SCK (io), 28 VREG (power), 29 R~{W} (out), 30 P2.0/TINPA0 (io), 31 P2.1/TINPB0 (io), 32 P2.2/TOUTA0 (io), 33 P2.3/TOUTB0 (io), 34 P2.4/TINPA1 (io), 35 P2.5/TINPB1 (io), 36 P2.6/TOUTA1 (io), 37 P2.7/TOUTB1 (io), 38 VSS (power), 39 VDD (power), 40 VREG (power), 41 VTEST (power), 42 P1.0/A8 (io), 43 P1.1/A9 (io), 44 P1.2/A10 (io), 45 P1.3/A11 (io), 46 WKUP6/RX1 (in), 47 TX1 (out), 48 P1.4/A12 (io), 49 P1.5/A13 (io), 50 P1.6/A14 (io), 51 P1.7/A15 (io), 52 ~{DS} (out), 53 ~{AS} (out), 54 P0.0/A0/D0 (io), 55 P0.1/A1/D1 (io), 56 P0.2/A2/D2 (io), 57 P0.3/A3/D3 (io), 58 P0.4/A4/D4 (io), 59 P0.5/A5/D5 (io), 60 P0.6/A6/D6 (io), 61 VSS (power), 62 VDD (power), 63 P0.7/A7/D7 (io), 64 P6.0/INT0/INT1/CLOCK2/8 (io), 65 P6.1/INT6/R~{W} (io), 66 P6.2/INT2/INT4/~{DS}2 (io), 67 P6.3/INT3/INT5 (io), 68 P6.4/NMI (io), 69 P6.5/WKUP10/INTCLK/VPWI (io), 70 NC, 71 P8.0/AIN0/WKUP14 (io), 72 P8.1/AIN1/WKUP15 (io), 73 P8.2/AIN2 (io), 74 P8.3/AIN3 (io), 75 P8.4/AIN4 (io), 76 P8.5/AIN5 (io), 77 P8.6/AIN6 (io), 78 P8.7/AIN7 (io), 79 AVDD (power), 80 AVSS (power), 81 P7.0/AIN8/CK_AF (io), 82 P7.1/AIN9 (io), 83 P7.2/AIN10 (io), 84 P7.3/AIN11 (io), 85 P7.4/AIN12/WKUP3 (io), 86 P7.5/AIN13/WKUP11 (io), 87 P7.6/AIN14/WKUP12 (io), 88 P7.7/AIN15/WKUP13 (io), 89 VSS (power), 90 VDD (power), 91 OSCIN (in), 92 OSCOUT (out), 93 ~{RESET} (in), 94 HW0SW1 (io), 95 P9.0/RDI (io), 96 P9.1/TDO (io), 97 P9.2/A16 (io), 98 P9.3/A17 (io), 99 P9.4/A18 (io), 100 P9.5/A19 (io)

## ST92F150JDV1QC
designator U?
8/16-Bit MCU with 128k Single Voltage FLASH Memory, 6k RAM, 1k E³PROM, ADC, CANs, J1850, Timers, SPI, I²C and SCI, 100-Pin PQFP; Note: VTEST must be kept low in standard operating mode.; Published: 26-May-2004; LatestRevisionDate: 13-Apr-2006; LatestRevisionNote: IPC-7351 Footprint Added.; DatasheetVersion: rev1.3, Dec-2002; PackageVersion: Jun-2003; PackageReference: PQFP100; Publisher: Altium Limited; PackageDescription: 100-Pin Plastic Quad Flat Pack Rectangular 0.65 mm Pitch; Code_IPC: QFP65P1720X2320-100; ComponentLink1Description: Manufacturer Link; ComponentLink1URL: http://www.st.com/; ComponentLink2Description: Datasheet; ComponentLink2URL: http://www.st.com/stonline/products/literature/ds/8848/st92f150.pdf
footprint PQFP100_N (QFP, 100-Leads, Body 20x14mm, Pitch 0.65mm, IPC Medium Density)
footprint PQFP100_L (QFP, 100-Leads, Body 20x14mm, Pitch 0.65mm, IPC High Density)
footprint PQFP100_M (QFP, 100-Leads, Body 20x14mm, Pitch 0.65mm, IPC Low Density)
3D model ST92F150-PQFP100 (100-Pin Plastic Quad Flat Pack Rectangular 0.65 mm Pitch)
pins: 1 P9.3/A17 (io), 2 P9.4/A18 (io), 3 P9.5/A19 (io), 4 P9.6/A20 (io), 5 P9.7/A21 (io), 6 P5.0/WKUP5/~{WAIT}/TX0 (io), 7 P5.1/WDOUT/WKUP6/RX0 (io), 8 P5.2/WKUP2/SIN (io), 9 P5.3/SOUT/WDIN (io), 10 P5.4/CLKOUT/TXCLK (io), 11 P5.5/WKUP7/RXCLK (io), 12 P5.6/WKUP8/DCD (io), 13 P5.7/RTS/WKUP9 (io), 14 P4.0/ICAPA1 (io), 15 P4.1/CLOCK2 (io), 16 P4.2/OCMPA1 (io), 17 VSS (power), 18 VDD (power), 19 P4.3/OCMPB1/ICAPB1 (io), 20 P4.4/WKUP4/EXTCLK1 (io), 21 P4.5/STOUT/EXTRG (io), 22 P4.6/SDA (io), 23 P4.7/SCL/WKUP1 (io), 24 P3.1/ICAPB0 (io), 25 P3.2/OCMPA0/ICAPA0 (io), 26 P3.3/OCMPB0 (io), 27 P3.4/~{SS}/EXTCLK0 (io), 28 P3.5/MISO (io), 29 P3.6/MOSI (io), 30 P3.7/WKUP0/SCK (io), 31 VREG (power), 32 R~{W} (out), 33 P2.0/TINPA0 (io), 34 P2.1/TINPB0 (io), 35 P2.2/TOUTA0 (io), 36 P2.3/TOUTB0 (io), 37 P2.4/TINPA1 (io), 38 P2.5/TINPB1 (io), 39 P2.6/TOUTA1 (io), 40 P2.7/TOUTB1 (io), 41 VSS (power), 42 VDD (power), 43 VREG (power), 44 VTEST (power), 45 P1.0/A8 (io), 46 P1.1/A9 (io), 47 P1.2/A10 (io), 48 P1.3/A11 (io), 49 WKUP6/RX1 (in), 50 TX1 (out), 51 P1.4/A12 (io), 52 P1.5/A13 (io), 53 P1.6/A14 (io), 54 P1.7/A15 (io), 55 ~{DS} (out), 56 ~{AS} (out), 57 P0.0/A0/D0 (io), 58 P0.1/A1/D1 (io), 59 P0.2/A2/D2 (io), 60 P0.3/A3/D3 (io), 61 P0.4/A4/D4 (io), 62 P0.5/A5/D5 (io), 63 P0.6/A6/D6 (io), 64 VSS (power), 65 VDD (power), 66 P0.7/A7/D7 (io), 67 P6.0/INT0/INT1/CLOCK2/8 (io), 68 P6.1/INT6/R~{W} (io), 69 P6.2/INT2/INT4/~{DS}2 (io), 70 P6.3/INT3/INT5 (io), 71 P6.4/NMI (io), 72 P6.5/WKUP10/INTCLK/VPWI (io), 73 VPWO (out), 74 P8.0/AIN0/WKUP14 (io), 75 P8.1/AIN1/WKUP15 (io), 76 P8.2/AIN2 (io), 77 P8.3/AIN3 (io), 78 P8.4/AIN4 (io), 79 P8.5/AIN5 (io), 80 P8.6/AIN6 (io), 81 P8.7/AIN7 (io), 82 AVDD (power), 83 AVSS (power), 84 P7.0/AIN8/CK_AF (io), 85 P7.1/AIN9 (io), 86 P7.2/AIN10 (io), 87 P7.3/AIN11 (io), 88 P7.4/AIN12/WKUP3 (io), 89 P7.5/AIN13/WKUP11 (io), 90 P7.6/AIN14/WKUP12 (io), 91 P7.7/AIN15/WKUP13 (io), 92 VSS (power), 93 VDD (power), 94 OSCIN (in), 95 OSCOUT (out), 96 ~{RESET} (in), 97 HW0SW1 (io), 98 P9.0/RDI (io), 99 P9.1/TDO (io), 100 P9.2/A16 (io)

## ST92F150JDV1TC
designator U?
8/16-Bit MCU with 128k Single Voltage FLASH Memory, 6k RAM, 1k E³PROM, ADC, CANs, J1850, Timers, SPI, I²C and SCI, 100-Pin TQFP; Note: VTEST must be kept low in standard operating mode.; Published: 26-May-2004; LatestRevisionDate: 13-Apr-2006; LatestRevisionNote: IPC-7351 Footprint Added.; DatasheetVersion: rev1.3, Dec-2002; PackageVersion: Dec-2002; PackageReference: TQFP100; Publisher: Altium Limited; PackageDescription: 100-Pin Thin Quad Flat Pack 0.5 mm Pitch; ComponentLink1Description: Manufacturer Link; ComponentLink1URL: http://www.st.com/; ComponentLink2Description: Datasheet; ComponentLink2URL: http://www.st.com/stonline/products/literature/ds/8848/st92f150.pdf
footprint TQFP100_N (Thin QFP, 100-Leads, Body 14x14mm, Pitch 0.5mm, IPC Medium Density)
footprint TQFP100_L (Thin QFP, 100-Leads, Body 14x14mm, Pitch 0.5mm, IPC High Density)
footprint TQFP100_M (Thin QFP, 100-Leads, Body 14x14mm, Pitch 0.5mm, IPC Low Density)
3D model ST92F150-TQFP100 (100-Pin Thin Quad Flat Pack 0.5 mm Pitch)
pins: 1 P9.6/A20 (io), 2 P9.7/A21 (io), 3 P5.0/WKUP5/~{WAIT}/TX0 (io), 4 P5.1/WDOUT/WKUP6/RX0 (io), 5 P5.2/WKUP2/SIN (io), 6 P5.3/SOUT/WDIN (io), 7 P5.4/CLKOUT/TXCLK (io), 8 P5.5/WKUP7/RXCLK (io), 9 P5.6/WKUP8/DCD (io), 10 P5.7/RTS/WKUP9 (io), 11 P4.0/ICAPA1 (io), 12 P4.1/CLOCK2 (io), 13 P4.2/OCMPA1 (io), 14 VSS (power), 15 VDD (power), 16 P4.3/OCMPB1/ICAPB1 (io), 17 P4.4/WKUP4/EXTCLK1 (io), 18 P4.5/STOUT/EXTRG (io), 19 P4.6/SDA (io), 20 P4.7/SCL/WKUP1 (io), 21 P3.1/ICAPB0 (io), 22 P3.2/OCMPA0/ICAPA0 (io), 23 P3.3/OCMPB0 (io), 24 P3.4/~{SS}/EXTCLK0 (io), 25 P3.5/MISO (io), 26 P3.6/MOSI (io), 27 P3.7/WKUP0/SCK (io), 28 VREG (power), 29 R~{W} (out), 30 P2.0/TINPA0 (io), 31 P2.1/TINPB0 (io), 32 P2.2/TOUTA0 (io), 33 P2.3/TOUTB0 (io), 34 P2.4/TINPA1 (io), 35 P2.5/TINPB1 (io), 36 P2.6/TOUTA1 (io), 37 P2.7/TOUTB1 (io), 38 VSS (power), 39 VDD (power), 40 VREG (power), 41 VTEST (power), 42 P1.0/A8 (io), 43 P1.1/A9 (io), 44 P1.2/A10 (io), 45 P1.3/A11 (io), 46 WKUP6/RX1 (in), 47 TX1 (out), 48 P1.4/A12 (io), 49 P1.5/A13 (io), 50 P1.6/A14 (io), 51 P1.7/A15 (io), 52 ~{DS} (out), 53 ~{AS} (out), 54 P0.0/A0/D0 (io), 55 P0.1/A1/D1 (io), 56 P0.2/A2/D2 (io), 57 P0.3/A3/D3 (io), 58 P0.4/A4/D4 (io), 59 P0.5/A5/D5 (io), 60 P0.6/A6/D6 (io), 61 VSS (power), 62 VDD (power), 63 P0.7/A7/D7 (io), 64 P6.0/INT0/INT1/CLOCK2/8 (io), 65 P6.1/INT6/R~{W} (io), 66 P6.2/INT2/INT4/~{DS}2 (io), 67 P6.3/INT3/INT5 (io), 68 P6.4/NMI (io), 69 P6.5/WKUP10/INTCLK/VPWI (io), 70 VPWO (out), 71 P8.0/AIN0/WKUP14 (io), 72 P8.1/AIN1/WKUP15 (io), 73 P8.2/AIN2 (io), 74 P8.3/AIN3 (io), 75 P8.4/AIN4 (io), 76 P8.5/AIN5 (io), 77 P8.6/AIN6 (io), 78 P8.7/AIN7 (io), 79 AVDD (power), 80 AVSS (power), 81 P7.0/AIN8/CK_AF (io), 82 P7.1/AIN9 (io), 83 P7.2/AIN10 (io), 84 P7.3/AIN11 (io), 85 P7.4/AIN12/WKUP3 (io), 86 P7.5/AIN13/WKUP11 (io), 87 P7.6/AIN14/WKUP12 (io), 88 P7.7/AIN15/WKUP13 (io), 89 VSS (power), 90 VDD (power), 91 OSCIN (in), 92 OSCOUT (out), 93 ~{RESET} (in), 94 HW0SW1 (io), 95 P9.0/RDI (io), 96 P9.1/TDO (io), 97 P9.2/A16 (io), 98 P9.3/A17 (io), 99 P9.4/A18 (io), 100 P9.5/A19 (io)

## ST92F250CV2QB
designator U?
8/16-Bit MCU with 256k Single Voltage FLASH Memory, 8k RAM, 1k E³PROM, ADC, CAN, LIN Master, Timers, SPI, I²C and SCI, 100-Pin PQFP; Note: VTEST must be kept low in standard operating mode.; Published: 26-May-2004; LatestRevisionDate: 13-Apr-2006; LatestRevisionNote: IPC-7351 Footprint Added.; DatasheetVersion: rev1.3, Dec-2002; PackageVersion: Jun-2003; PackageReference: PQFP100; Publisher: Altium Limited; PackageDescription: 100-Pin Plastic Quad Flat Pack Rectangular 0.65 mm Pitch; Code_IPC: QFP65P1720X2320-100; ComponentLink1Description: Manufacturer Link; ComponentLink1URL: http://www.st.com/; ComponentLink2Description: Datasheet; ComponentLink2URL: http://www.st.com/stonline/products/literature/ds/8848/st92f250.pdf
footprint PQFP100_N (QFP, 100-Leads, Body 20x14mm, Pitch 0.65mm, IPC Medium Density)
footprint PQFP100_L (QFP, 100-Leads, Body 20x14mm, Pitch 0.65mm, IPC High Density)
footprint PQFP100_M (QFP, 100-Leads, Body 20x14mm, Pitch 0.65mm, IPC Low Density)
3D model ST92F250-PQFP100 (100-Pin Plastic Quad Flat Pack Rectangular 0.65 mm Pitch)
pins: 1 P9.3/A17/SDA1 (io), 2 P9.4/A18/SCL1 (io), 3 P9.5/A19 (io), 4 P9.6/A20 (io), 5 P9.7/A21 (io), 6 P5.0/WKUP5/~{WAIT}/TX0 (io), 7 P5.1/WDOUT/WKUP6/RX0 (io), 8 P5.2/WKUP2/SIN (io), 9 P5.3/SOUT/WDIN (io), 10 P5.4/CLKOUT/TXCLK (io), 11 P5.5/WKUP7/RXCLK (io), 12 P5.6/WKUP8/DCD (io), 13 P5.7/RTS/WKUP9 (io), 14 P4.0/ICAPA1 (io), 15 P4.1/CLOCK2 (io), 16 P4.2/OCMPA1 (io), 17 VSS (power), 18 VDD (power), 19 P4.3/OCMPB1/ICAPB1 (io), 20 P4.4/WKUP4/EXTCLK1 (io), 21 P4.5/STOUT/EXTRG (io), 22 P4.6/SDA0 (io), 23 P4.7/SCL0/WKUP1 (io), 24 P3.1/ICAPB0 (io), 25 P3.2/OCMPA0/ICAPA0 (io), 26 P3.3/OCMPB0 (io), 27 P3.4/~{SS}/EXTCLK0 (io), 28 P3.5/MISO (io), 29 P3.6/MOSI (io), 30 P3.7/WKUP0/SCK (io), 31 VREG (power), 32 R~{W} (out), 33 P2.0/TINPA0 (io), 34 P2.1/TINPB0 (io), 35 P2.2/TOUTA0 (io), 36 P2.3/TOUTB0 (io), 37 P2.4/TINPA1 (io), 38 P2.5/TINPB1 (io), 39 P2.6/TOUTA1 (io), 40 P2.7/TOUTB1 (io), 41 VSS (power), 42 VDD (power), 43 VREG (power), 44 VTEST (power), 45 P1.0/A8 (io), 46 P1.1/A9 (io), 47 P1.2/A10 (io), 48 P1.3/A11 (io), 49 P6.6 (io), 50 P6.7 (io), 51 P1.4/A12 (io), 52 P1.5/A13 (io), 53 P1.6/A14 (io), 54 P1.7/A15 (io), 55 ~{DS} (out), 56 ~{AS} (out), 57 P0.0/A0/D0 (io), 58 P0.1/A1/D1 (io), 59 P0.2/A2/D2 (io), 60 P0.3/A3/D3 (io), 61 P0.4/A4/D4 (io), 62 P0.5/A5/D5 (io), 63 P0.6/A6/D6 (io), 64 VSS (power), 65 VDD (power), 66 P0.7/A7/D7 (io), 67 P6.0/INT0/INT1/CLOCK2/8 (io), 68 P6.1/INT6/R~{W} (io), 69 P6.2/INT2/INT4/~{DS}2 (io), 70 P6.3/INT3/INT5 (io), 71 P6.4/NMI (io), 72 P6.5/WKUP10/INTCLK (io), 73 P3.0 (io), 74 P8.0/AIN0/WKUP14 (io), 75 P8.1/AIN1/WKUP15 (io), 76 P8.2/AIN2 (io), 77 P8.3/AIN3 (io), 78 P8.4/AIN4 (io), 79 P8.5/AIN5 (io), 80 P8.6/AIN6 (io), 81 P8.7/AIN7 (io), 82 AVDD (power), 83 AVSS (power), 84 P7.0/AIN8/CK_AF (io), 85 P7.1/AIN9 (io), 86 P7.2/AIN10 (io), 87 P7.3/AIN11 (io), 88 P7.4/AIN12/WKUP3 (io), 89 P7.5/AIN13/WKUP11 (io), 90 P7.6/AIN14/WKUP12 (io), 91 P7.7/AIN15/WKUP13 (io), 92 VSS (power), 93 VDD (power), 94 OSCIN (in), 95 OSCOUT (out), 96 ~{RESET} (in), 97 HW0SW1 (io), 98 P9.0/RDI (io), 99 P9.1/TDO (io), 100 P9.2/A16 (io)

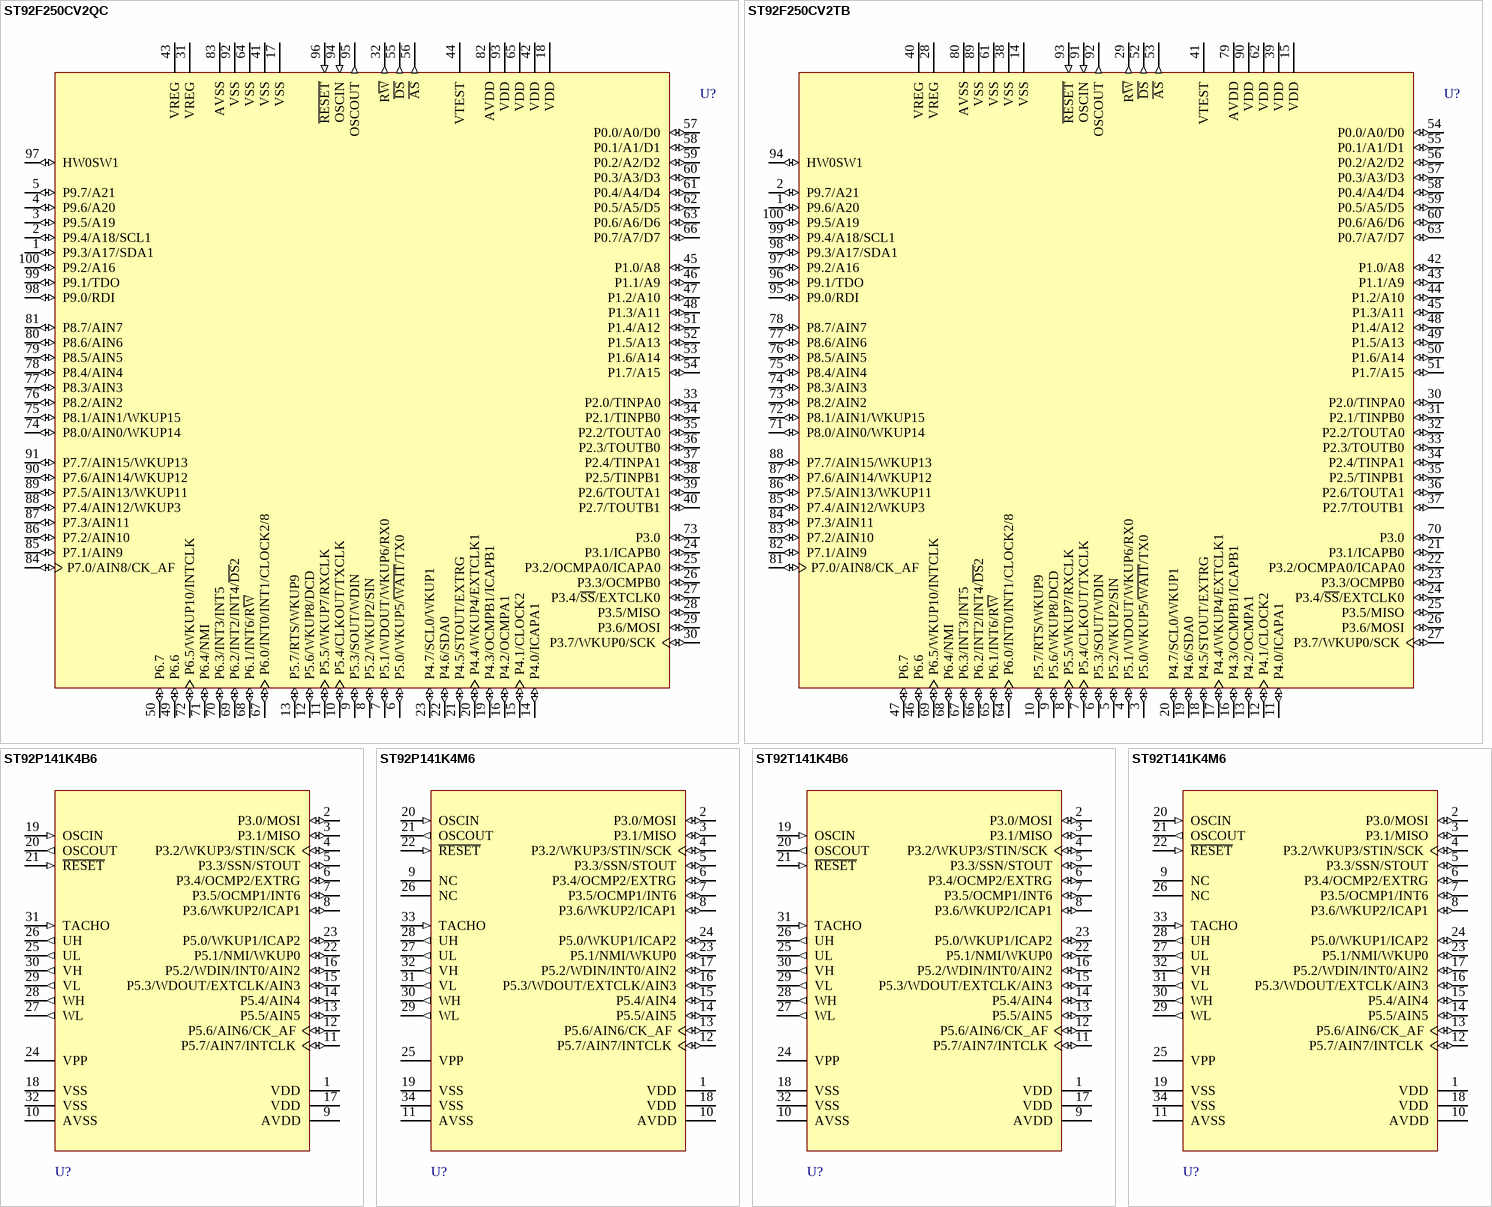
[diagram p75: symbols ST92F250CV2QC to ST92T141K4M6]

## ST92F250CV2QC
designator U?
8/16-Bit MCU with 256k Single Voltage FLASH Memory, 8k RAM, 1k E³PROM, ADC, CAN, LIN Master, Timers, SPI, I²C and SCI, 100-Pin PQFP; Note: VTEST must be kept low in standard operating mode.; Published: 26-May-2004; LatestRevisionDate: 13-Apr-2006; LatestRevisionNote: IPC-7351 Footprint Added.; DatasheetVersion: rev1.3, Dec-2002; PackageVersion: Jun-2003; PackageReference: PQFP100; Publisher: Altium Limited; PackageDescription: 100-Pin Plastic Quad Flat Pack Rectangular 0.65 mm Pitch; Code_IPC: QFP65P1720X2320-100; ComponentLink1Description: Manufacturer Link; ComponentLink1URL: http://www.st.com/; ComponentLink2Description: Datasheet; ComponentLink2URL: http://www.st.com/stonline/products/literature/ds/8848/st92f250.pdf
footprint PQFP100_N (QFP, 100-Leads, Body 20x14mm, Pitch 0.65mm, IPC Medium Density)
footprint PQFP100_L (QFP, 100-Leads, Body 20x14mm, Pitch 0.65mm, IPC High Density)
footprint PQFP100_M (QFP, 100-Leads, Body 20x14mm, Pitch 0.65mm, IPC Low Density)
3D model ST92F250-PQFP100 (100-Pin Plastic Quad Flat Pack Rectangular 0.65 mm Pitch)
pins: 1 P9.3/A17/SDA1 (io), 2 P9.4/A18/SCL1 (io), 3 P9.5/A19 (io), 4 P9.6/A20 (io), 5 P9.7/A21 (io), 6 P5.0/WKUP5/~{WAIT}/TX0 (io), 7 P5.1/WDOUT/WKUP6/RX0 (io), 8 P5.2/WKUP2/SIN (io), 9 P5.3/SOUT/WDIN (io), 10 P5.4/CLKOUT/TXCLK (io), 11 P5.5/WKUP7/RXCLK (io), 12 P5.6/WKUP8/DCD (io), 13 P5.7/RTS/WKUP9 (io), 14 P4.0/ICAPA1 (io), 15 P4.1/CLOCK2 (io), 16 P4.2/OCMPA1 (io), 17 VSS (power), 18 VDD (power), 19 P4.3/OCMPB1/ICAPB1 (io), 20 P4.4/WKUP4/EXTCLK1 (io), 21 P4.5/STOUT/EXTRG (io), 22 P4.6/SDA0 (io), 23 P4.7/SCL0/WKUP1 (io), 24 P3.1/ICAPB0 (io), 25 P3.2/OCMPA0/ICAPA0 (io), 26 P3.3/OCMPB0 (io), 27 P3.4/~{SS}/EXTCLK0 (io), 28 P3.5/MISO (io), 29 P3.6/MOSI (io), 30 P3.7/WKUP0/SCK (io), 31 VREG (power), 32 R~{W} (out), 33 P2.0/TINPA0 (io), 34 P2.1/TINPB0 (io), 35 P2.2/TOUTA0 (io), 36 P2.3/TOUTB0 (io), 37 P2.4/TINPA1 (io), 38 P2.5/TINPB1 (io), 39 P2.6/TOUTA1 (io), 40 P2.7/TOUTB1 (io), 41 VSS (power), 42 VDD (power), 43 VREG (power), 44 VTEST (power), 45 P1.0/A8 (io), 46 P1.1/A9 (io), 47 P1.2/A10 (io), 48 P1.3/A11 (io), 49 P6.6 (io), 50 P6.7 (io), 51 P1.4/A12 (io), 52 P1.5/A13 (io), 53 P1.6/A14 (io), 54 P1.7/A15 (io), 55 ~{DS} (out), 56 ~{AS} (out), 57 P0.0/A0/D0 (io), 58 P0.1/A1/D1 (io), 59 P0.2/A2/D2 (io), 60 P0.3/A3/D3 (io), 61 P0.4/A4/D4 (io), 62 P0.5/A5/D5 (io), 63 P0.6/A6/D6 (io), 64 VSS (power), 65 VDD (power), 66 P0.7/A7/D7 (io), 67 P6.0/INT0/INT1/CLOCK2/8 (io), 68 P6.1/INT6/R~{W} (io), 69 P6.2/INT2/INT4/~{DS}2 (io), 70 P6.3/INT3/INT5 (io), 71 P6.4/NMI (io), 72 P6.5/WKUP10/INTCLK (io), 73 P3.0 (io), 74 P8.0/AIN0/WKUP14 (io), 75 P8.1/AIN1/WKUP15 (io), 76 P8.2/AIN2 (io), 77 P8.3/AIN3 (io), 78 P8.4/AIN4 (io), 79 P8.5/AIN5 (io), 80 P8.6/AIN6 (io), 81 P8.7/AIN7 (io), 82 AVDD (power), 83 AVSS (power), 84 P7.0/AIN8/CK_AF (io), 85 P7.1/AIN9 (io), 86 P7.2/AIN10 (io), 87 P7.3/AIN11 (io), 88 P7.4/AIN12/WKUP3 (io), 89 P7.5/AIN13/WKUP11 (io), 90 P7.6/AIN14/WKUP12 (io), 91 P7.7/AIN15/WKUP13 (io), 92 VSS (power), 93 VDD (power), 94 OSCIN (in), 95 OSCOUT (out), 96 ~{RESET} (in), 97 HW0SW1 (io), 98 P9.0/RDI (io), 99 P9.1/TDO (io), 100 P9.2/A16 (io)

## ST92F250CV2TB
designator U?
8/16-Bit MCU with 256k Single Voltage FLASH Memory, 8k RAM, 1k E³PROM, ADC, CAN, LIN Master, Timers, SPI, I²C and SCI, 100-Pin TQFP; Note: VTEST must be kept low in standard operating mode.; Published: 26-May-2004; LatestRevisionDate: 13-Apr-2006; LatestRevisionNote: IPC-7351 Footprint Added.; DatasheetVersion: rev1.3, Dec-2002; PackageVersion: Dec-2002; PackageReference: TQFP100; Publisher: Altium Limited; PackageDescription: 100-Pin Thin Quad Flat Pack 0.5 mm Pitch; ComponentLink1Description: Manufacturer Link; ComponentLink1URL: http://www.st.com/; ComponentLink2Description: Datasheet; ComponentLink2URL: http://www.st.com/stonline/products/literature/ds/8848/st92f250.pdf
footprint TQFP100_N (Thin QFP, 100-Leads, Body 14x14mm, Pitch 0.5mm, IPC Medium Density)
footprint TQFP100_L (Thin QFP, 100-Leads, Body 14x14mm, Pitch 0.5mm, IPC High Density)
footprint TQFP100_M (Thin QFP, 100-Leads, Body 14x14mm, Pitch 0.5mm, IPC Low Density)
3D model ST92F250-TQFP100 (100-Pin Thin Quad Flat Pack 0.5 mm Pitch)
pins: 1 P9.6/A20 (io), 2 P9.7/A21 (io), 3 P5.0/WKUP5/~{WAIT}/TX0 (io), 4 P5.1/WDOUT/WKUP6/RX0 (io), 5 P5.2/WKUP2/SIN (io), 6 P5.3/SOUT/WDIN (io), 7 P5.4/CLKOUT/TXCLK (io), 8 P5.5/WKUP7/RXCLK (io), 9 P5.6/WKUP8/DCD (io), 10 P5.7/RTS/WKUP9 (io), 11 P4.0/ICAPA1 (io), 12 P4.1/CLOCK2 (io), 13 P4.2/OCMPA1 (io), 14 VSS (power), 15 VDD (power), 16 P4.3/OCMPB1/ICAPB1 (io), 17 P4.4/WKUP4/EXTCLK1 (io), 18 P4.5/STOUT/EXTRG (io), 19 P4.6/SDA0 (io), 20 P4.7/SCL0/WKUP1 (io), 21 P3.1/ICAPB0 (io), 22 P3.2/OCMPA0/ICAPA0 (io), 23 P3.3/OCMPB0 (io), 24 P3.4/~{SS}/EXTCLK0 (io), 25 P3.5/MISO (io), 26 P3.6/MOSI (io), 27 P3.7/WKUP0/SCK (io), 28 VREG (power), 29 R~{W} (out), 30 P2.0/TINPA0 (io), 31 P2.1/TINPB0 (io), 32 P2.2/TOUTA0 (io), 33 P2.3/TOUTB0 (io), 34 P2.4/TINPA1 (io), 35 P2.5/TINPB1 (io), 36 P2.6/TOUTA1 (io), 37 P2.7/TOUTB1 (io), 38 VSS (power), 39 VDD (power), 40 VREG (power), 41 VTEST (power), 42 P1.0/A8 (io), 43 P1.1/A9 (io), 44 P1.2/A10 (io), 45 P1.3/A11 (io), 46 P6.6 (io), 47 P6.7 (io), 48 P1.4/A12 (io), 49 P1.5/A13 (io), 50 P1.6/A14 (io), 51 P1.7/A15 (io), 52 ~{DS} (out), 53 ~{AS} (out), 54 P0.0/A0/D0 (io), 55 P0.1/A1/D1 (io), 56 P0.2/A2/D2 (io), 57 P0.3/A3/D3 (io), 58 P0.4/A4/D4 (io), 59 P0.5/A5/D5 (io), 60 P0.6/A6/D6 (io), 61 VSS (power), 62 VDD (power), 63 P0.7/A7/D7 (io), 64 P6.0/INT0/INT1/CLOCK2/8 (io), 65 P6.1/INT6/R~{W} (io), 66 P6.2/INT2/INT4/~{DS}2 (io), 67 P6.3/INT3/INT5 (io), 68 P6.4/NMI (io), 69 P6.5/WKUP10/INTCLK (io), 70 P3.0 (io), 71 P8.0/AIN0/WKUP14 (io), 72 P8.1/AIN1/WKUP15 (io), 73 P8.2/AIN2 (io), 74 P8.3/AIN3 (io), 75 P8.4/AIN4 (io), 76 P8.5/AIN5 (io), 77 P8.6/AIN6 (io), 78 P8.7/AIN7 (io), 79 AVDD (power), 80 AVSS (power), 81 P7.0/AIN8/CK_AF (io), 82 P7.1/AIN9 (io), 83 P7.2/AIN10 (io), 84 P7.3/AIN11 (io), 85 P7.4/AIN12/WKUP3 (io), 86 P7.5/AIN13/WKUP11 (io), 87 P7.6/AIN14/WKUP12 (io), 88 P7.7/AIN15/WKUP13 (io), 89 VSS (power), 90 VDD (power), 91 OSCIN (in), 92 OSCOUT (out), 93 ~{RESET} (in), 94 HW0SW1 (io), 95 P9.0/RDI (io), 96 P9.1/TDO (io), 97 P9.2/A16 (io), 98 P9.3/A17/SDA1 (io), 99 P9.4/A18/SCL1 (io), 100 P9.5/A19 (io)

## ST92P141K4B6
designator U?
8/16-Bit MCU with 16k FASTROM, 512b RAM, 3-Phase AC Motor Control, 32-Pin PDIP; Published: 26-May-2004; LatestRevisionDate: 06-Jun-2005; LatestRevisionNote: Stylized 3D Model Added.; DatasheetVersion: rev3.3, Jan-2001; PackageVersion: rev1.7, Oct-2001; PackageReference: PSDIP32; Publisher: Altium Limited; PackageDescription: DIP, Plastic Shrink; 32 Leads; Row Spacing 10.16 mm; Pitch 1.78 mm; ComponentLink1Description: Manufacturer Link; ComponentLink1URL: http://www.st.com/; ComponentLink2Description: Datasheet; ComponentLink2URL: http://www.st.com/stonline/products/literature/ds/7002/st92141k4.pdf
footprint PSDIP32 (DIP, Plastic Shrink; 32 Leads; Row Spacing 10.16 mm; Pitch 1.78 mm)
3D model PSDIP32 (DIP, Plastic Shrink; 32 Leads; Row Spacing 10.16 mm; Pitch 1.78 mm)
pins: 1 VDD (power), 2 P3.0/MOSI (io), 3 P3.1/MISO (io), 4 P3.2/WKUP3/STIN/SCK (io), 5 P3.3/SSN/STOUT (io), 6 P3.4/OCMP2/EXTRG (io), 7 P3.5/OCMP1/INT6 (io), 8 P3.6/WKUP2/ICAP1 (io), 9 AVDD (power), 10 AVSS (power), 11 P5.7/AIN7/INTCLK (io), 12 P5.6/AIN6/CK_AF (io), 13 P5.5/AIN5 (io), 14 P5.4/AIN4 (io), 15 P5.3/WDOUT/EXTCLK/AIN3 (io), 16 P5.2/WDIN/INT0/AIN2 (io), 17 VDD (power), 18 VSS (power), 19 OSCIN (in), 20 OSCOUT (out), 21 ~{RESET} (in), 22 P5.1/NMI/WKUP0 (io), 23 P5.0/WKUP1/ICAP2 (io), 24 VPP (power), 25 UL (out), 26 UH (out), 27 WL (out), 28 WH (out), 29 VL (out), 30 VH (out), 31 TACHO (in), 32 VSS (power)

## ST92P141K4M6
designator U?
8/16-Bit MCU with 16k FASTROM, 512b RAM, 3-Phase AC Motor Control, 34-Pin SOIC; Published: 26-May-2004; LatestRevisionDate: 13-Apr-2006; LatestRevisionNote: IPC-7351 Footprint Added.; DatasheetVersion: rev3.3, Jan-2001; PackageVersion: rev1.7, Oct-2001; PackageReference: SO34S; Publisher: Altium Limited; PackageDescription: 34-Pin Small Outline Package 1.02 mm Pitch; ComponentLink1Description: Manufacturer Link; ComponentLink1URL: http://www.st.com/; ComponentLink2Description: Datasheet; ComponentLink2URL: http://www.st.com/stonline/products/literature/ds/7002/st92141k4.pdf
footprint SO34S_N (SOP, 34-Leads, Body 17.9x7.51mm, Pitch 1.02mm, IPC Medium Density)
footprint SO34S_L (SOP, 34-Leads, Body 17.9x7.51mm, Pitch 1.02mm, IPC High Density)
footprint SO34S_M (SOP, 34-Leads, Body 17.9x7.51mm, Pitch 1.02mm, IPC Low Density)
3D model SO34S (34-Pin Small Outline Package 1.02 mm Pitch)
pins: 1 VDD (power), 2 P3.0/MOSI (io), 3 P3.1/MISO (io), 4 P3.2/WKUP3/STIN/SCK (io), 5 P3.3/SSN/STOUT (io), 6 P3.4/OCMP2/EXTRG (io), 7 P3.5/OCMP1/INT6 (io), 8 P3.6/WKUP2/ICAP1 (io), 9 NC, 10 AVDD (power), 11 AVSS (power), 12 P5.7/AIN7/INTCLK (io), 13 P5.6/AIN6/CK_AF (io), 14 P5.5/AIN5 (io), 15 P5.4/AIN4 (io), 16 P5.3/WDOUT/EXTCLK/AIN3 (io), 17 P5.2/WDIN/INT0/AIN2 (io), 18 VDD (power), 19 VSS (power), 20 OSCIN (in), 21 OSCOUT (out), 22 ~{RESET} (in), 23 P5.1/NMI/WKUP0 (io), 24 P5.0/WKUP1/ICAP2 (io), 25 VPP (power), 26 NC, 27 UL (out), 28 UH (out), 29 WL (out), 30 WH (out), 31 VL (out), 32 VH (out), 33 TACHO (in), 34 VSS (power)

## ST92T141K4B6
designator U?
8/16-Bit MCU with 16k OTP, 512b RAM, 3-Phase AC Motor Control, 32-Pin PDIP; Published: 26-May-2004; LatestRevisionDate: 06-Jun-2005; LatestRevisionNote: Stylized 3D Model Added.; DatasheetVersion: rev3.3, Jan-2001; PackageVersion: rev1.7, Oct-2001; PackageReference: PSDIP32; Publisher: Altium Limited; PackageDescription: DIP, Plastic Shrink; 32 Leads; Row Spacing 10.16 mm; Pitch 1.78 mm; ComponentLink1Description: Manufacturer Link; ComponentLink1URL: http://www.st.com/; ComponentLink2Description: Datasheet; ComponentLink2URL: http://www.st.com/stonline/products/literature/ds/7002/st92141k4.pdf
footprint PSDIP32 (DIP, Plastic Shrink; 32 Leads; Row Spacing 10.16 mm; Pitch 1.78 mm)
3D model PSDIP32 (DIP, Plastic Shrink; 32 Leads; Row Spacing 10.16 mm; Pitch 1.78 mm)
pins: 1 VDD (power), 2 P3.0/MOSI (io), 3 P3.1/MISO (io), 4 P3.2/WKUP3/STIN/SCK (io), 5 P3.3/SSN/STOUT (io), 6 P3.4/OCMP2/EXTRG (io), 7 P3.5/OCMP1/INT6 (io), 8 P3.6/WKUP2/ICAP1 (io), 9 AVDD (power), 10 AVSS (power), 11 P5.7/AIN7/INTCLK (io), 12 P5.6/AIN6/CK_AF (io), 13 P5.5/AIN5 (io), 14 P5.4/AIN4 (io), 15 P5.3/WDOUT/EXTCLK/AIN3 (io), 16 P5.2/WDIN/INT0/AIN2 (io), 17 VDD (power), 18 VSS (power), 19 OSCIN (in), 20 OSCOUT (out), 21 ~{RESET} (in), 22 P5.1/NMI/WKUP0 (io), 23 P5.0/WKUP1/ICAP2 (io), 24 VPP (power), 25 UL (out), 26 UH (out), 27 WL (out), 28 WH (out), 29 VL (out), 30 VH (out), 31 TACHO (in), 32 VSS (power)

## ST92T141K4M6
designator U?
8/16-Bit MCU with 16k OTP, 512b RAM, 3-Phase AC Motor Control, 34-Pin SOIC; Published: 26-May-2004; LatestRevisionDate: 13-Apr-2006; LatestRevisionNote: IPC-7351 Footprint Added.; DatasheetVersion: rev3.3, Jan-2001; PackageVersion: rev1.7, Oct-2001; PackageReference: SO34S; Publisher: Altium Limited; PackageDescription: 34-Pin Small Outline Package 1.02 mm Pitch; ComponentLink1Description: Manufacturer Link; ComponentLink1URL: http://www.st.com/; ComponentLink2Description: Datasheet; ComponentLink2URL: http://www.st.com/stonline/products/literature/ds/7002/st92141k4.pdf
footprint SO34S_N (SOP, 34-Leads, Body 17.9x7.51mm, Pitch 1.02mm, IPC Medium Density)
footprint SO34S_L (SOP, 34-Leads, Body 17.9x7.51mm, Pitch 1.02mm, IPC High Density)
footprint SO34S_M (SOP, 34-Leads, Body 17.9x7.51mm, Pitch 1.02mm, IPC Low Density)
3D model SO34S (34-Pin Small Outline Package 1.02 mm Pitch)
pins: 1 VDD (power), 2 P3.0/MOSI (io), 3 P3.1/MISO (io), 4 P3.2/WKUP3/STIN/SCK (io), 5 P3.3/SSN/STOUT (io), 6 P3.4/OCMP2/EXTRG (io), 7 P3.5/OCMP1/INT6 (io), 8 P3.6/WKUP2/ICAP1 (io), 9 NC, 10 AVDD (power), 11 AVSS (power), 12 P5.7/AIN7/INTCLK (io), 13 P5.6/AIN6/CK_AF (io), 14 P5.5/AIN5 (io), 15 P5.4/AIN4 (io), 16 P5.3/WDOUT/EXTCLK/AIN3 (io), 17 P5.2/WDIN/INT0/AIN2 (io), 18 VDD (power), 19 VSS (power), 20 OSCIN (in), 21 OSCOUT (out), 22 ~{RESET} (in), 23 P5.1/NMI/WKUP0 (io), 24 P5.0/WKUP1/ICAP2 (io), 25 VPP (power), 26 NC, 27 UL (out), 28 UH (out), 29 WL (out), 30 WH (out), 31 VL (out), 32 VH (out), 33 TACHO (in), 34 VSS (power)

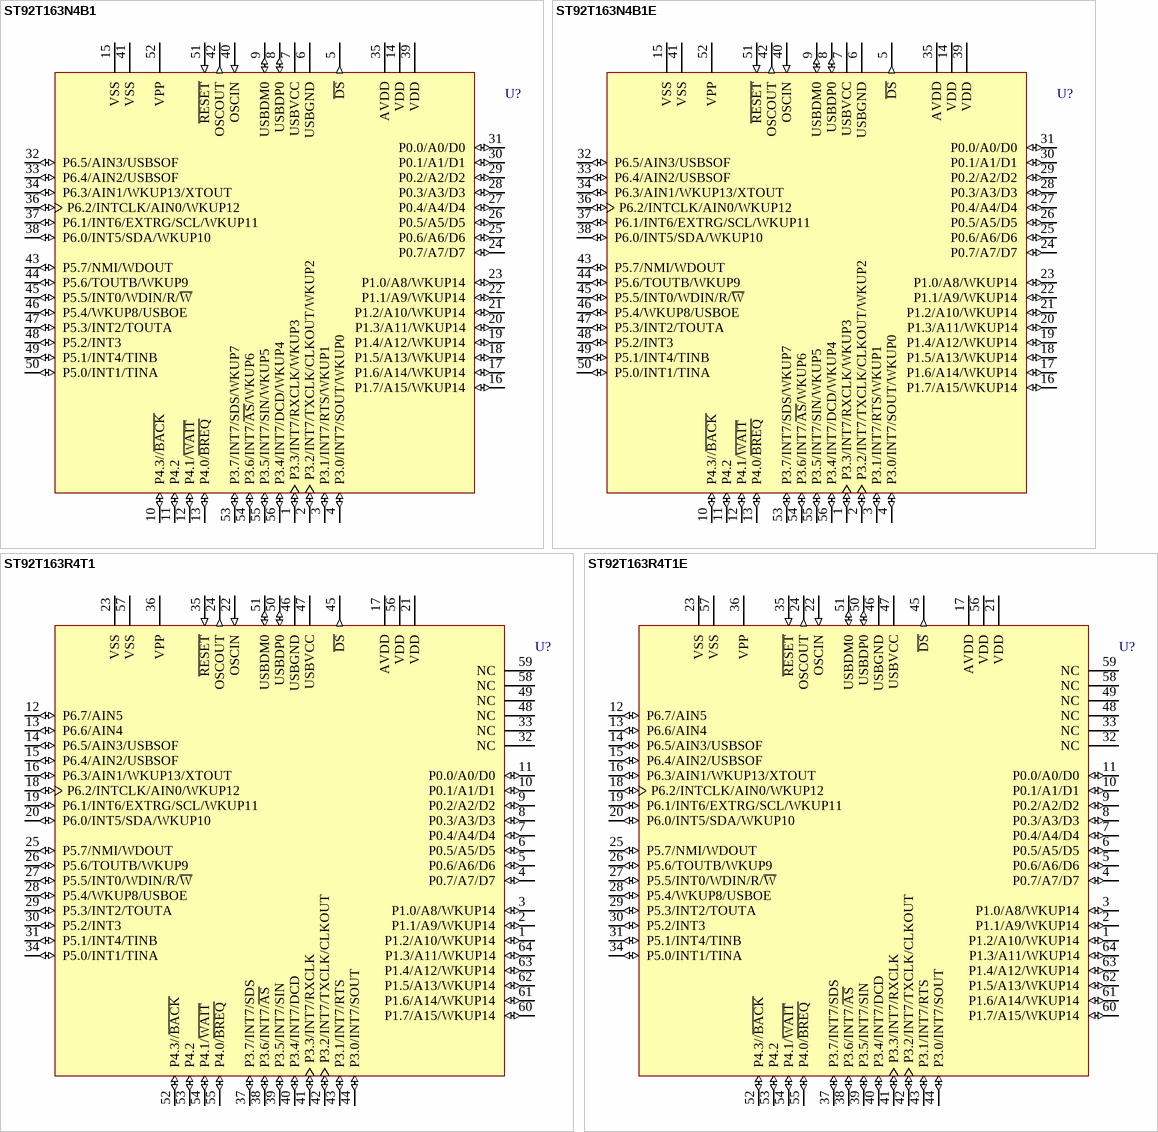
[diagram p76: symbols ST92T163N4B1 to ST92T163R4T1E]

## ST92T163N4B1
designator U?
8/16-Bit MCU with 20k OTP, 2k RAM, Full-Speed USB with 16 Endpoints, I²C, SCI and MFT, 56-Pin SDIP, Normal Mode; Published: 26-May-2004; LatestRevisionDate: 06-Jun-2005; LatestRevisionNote: Stylized 3D Model Added.; DatasheetVersion: rev2.4, Jan-2002; PackageVersion: Jan-2002; PackageReference: PSDIP56; Publisher: Altium Limited; PackageDescription: DIP, Plastic Shrink; 56 Leads; Row Spacing 15.24 mm; Pitch 1.78 mm; ComponentLink1Description: Manufacturer Link; ComponentLink1URL: http://www.st.com/; ComponentLink2Description: Datasheet; ComponentLink2URL: http://www.st.com/stonline/products/literature/ds/5521/st92163n4.pdf
footprint PSDIP56 (DIP, Plastic Shrink; 56 Leads; Row Spacing 15.24 mm; Pitch 1.78 mm)
3D model PSDIP56 (DIP, Plastic Shrink; 56 Leads; Row Spacing 15.24 mm; Pitch 1.78 mm)
pins: 1 P3.3/INT7/RXCLK/WKUP3 (io), 2 P3.2/INT7/TXCLK/CLKOUT/WKUP2 (io), 3 P3.1/INT7/RTS/WKUP1 (io), 4 P3.0/INT7/SOUT/WKUP0 (io), 5 ~{DS} (out), 6 USBGND (power), 7 USBVCC (power), 8 USBDP0 (io), 9 USBDM0 (io), 10 P4.3//~{BACK} (io), 11 P4.2 (io), 12 P4.1/~{WAIT} (io), 13 P4.0/~{BREQ} (io), 14 VDD (power), 15 VSS (power), 16 P1.7/A15/WKUP14 (io), 17 P1.6/A14/WKUP14 (io), 18 P1.5/A13/WKUP14 (io), 19 P1.4/A12/WKUP14 (io), 20 P1.3/A11/WKUP14 (io), 21 P1.2/A10/WKUP14 (io), 22 P1.1/A9/WKUP14 (io), 23 P1.0/A8/WKUP14 (io), 24 P0.7/A7/D7 (io), 25 P0.6/A6/D6 (io), 26 P0.5/A5/D5 (io), 27 P0.4/A4/D4 (io), 28 P0.3/A3/D3 (io), 29 P0.2/A2/D2 (io), 30 P0.1/A1/D1 (io), 31 P0.0/A0/D0 (io), 32 P6.5/AIN3/USBSOF (io), 33 P6.4/AIN2/USBSOF (io), 34 P6.3/AIN1/WKUP13/XTOUT (io), 35 AVDD (power), 36 P6.2/INTCLK/AIN0/WKUP12 (io), 37 P6.1/INT6/EXTRG/SCL/WKUP11 (io), 38 P6.0/INT5/SDA/WKUP10 (io), 39 VDD (power), 40 OSCIN (in), 41 VSS (power), 42 OSCOUT (out), 43 P5.7/NMI/WDOUT (io), 44 P5.6/TOUTB/WKUP9 (io), 45 P5.5/INT0/WDIN/R/~{W} (io), 46 P5.4/WKUP8/USBOE (io), 47 P5.3/INT2/TOUTA (io), 48 P5.2/INT3 (io), 49 P5.1/INT4/TINB (io), 50 P5.0/INT1/TINA (io), 51 ~{RESET} (in), 52 VPP (power), 53 P3.7/INT7/SDS/WKUP7 (io), 54 P3.6/INT7/~{AS}/WKUP6 (io), 55 P3.5/INT7/SIN/WKUP5 (io), 56 P3.4/INT7/DCD/WKUP4 (io)

## ST92T163N4B1E
designator U?
8/16-Bit MCU with 20k OTP, 2k RAM, Full-Speed USB with 16 Endpoints, I²C, SCI and MFT, 56-Pin SDIP, Normal Mode; Published: 26-May-2004; LatestRevisionDate: 06-Jun-2005; LatestRevisionNote: Stylized 3D Model Added.; DatasheetVersion: rev2.4, Jan-2002; PackageVersion: Jan-2002; PackageReference: PSDIP56; Publisher: Altium Limited; PackageDescription: DIP, Plastic Shrink; 56 Leads; Row Spacing 15.24 mm; Pitch 1.78 mm; ComponentLink1Description: Manufacturer Link; ComponentLink1URL: http://www.st.com/; ComponentLink2Description: Datasheet; ComponentLink2URL: http://www.st.com/stonline/products/literature/ds/5521/st92163n4.pdf
footprint PSDIP56 (DIP, Plastic Shrink; 56 Leads; Row Spacing 15.24 mm; Pitch 1.78 mm)
3D model PSDIP56 (DIP, Plastic Shrink; 56 Leads; Row Spacing 15.24 mm; Pitch 1.78 mm)
pins: 1 P3.3/INT7/RXCLK/WKUP3 (io), 2 P3.2/INT7/TXCLK/CLKOUT/WKUP2 (io), 3 P3.1/INT7/RTS/WKUP1 (io), 4 P3.0/INT7/SOUT/WKUP0 (io), 5 ~{DS} (out), 6 USBGND (power), 7 USBVCC (power), 8 USBDP0 (io), 9 USBDM0 (io), 10 P4.3//~{BACK} (io), 11 P4.2 (io), 12 P4.1/~{WAIT} (io), 13 P4.0/~{BREQ} (io), 14 VDD (power), 15 VSS (power), 16 P1.7/A15/WKUP14 (io), 17 P1.6/A14/WKUP14 (io), 18 P1.5/A13/WKUP14 (io), 19 P1.4/A12/WKUP14 (io), 20 P1.3/A11/WKUP14 (io), 21 P1.2/A10/WKUP14 (io), 22 P1.1/A9/WKUP14 (io), 23 P1.0/A8/WKUP14 (io), 24 P0.7/A7/D7 (io), 25 P0.6/A6/D6 (io), 26 P0.5/A5/D5 (io), 27 P0.4/A4/D4 (io), 28 P0.3/A3/D3 (io), 29 P0.2/A2/D2 (io), 30 P0.1/A1/D1 (io), 31 P0.0/A0/D0 (io), 32 P6.5/AIN3/USBSOF (io), 33 P6.4/AIN2/USBSOF (io), 34 P6.3/AIN1/WKUP13/XTOUT (io), 35 AVDD (power), 36 P6.2/INTCLK/AIN0/WKUP12 (io), 37 P6.1/INT6/EXTRG/SCL/WKUP11 (io), 38 P6.0/INT5/SDA/WKUP10 (io), 39 VDD (power), 40 OSCIN (in), 41 VSS (power), 42 OSCOUT (out), 43 P5.7/NMI/WDOUT (io), 44 P5.6/TOUTB/WKUP9 (io), 45 P5.5/INT0/WDIN/R/~{W} (io), 46 P5.4/WKUP8/USBOE (io), 47 P5.3/INT2/TOUTA (io), 48 P5.2/INT3 (io), 49 P5.1/INT4/TINB (io), 50 P5.0/INT1/TINA (io), 51 ~{RESET} (in), 52 VPP (power), 53 P3.7/INT7/SDS/WKUP7 (io), 54 P3.6/INT7/~{AS}/WKUP6 (io), 55 P3.5/INT7/SIN/WKUP5 (io), 56 P3.4/INT7/DCD/WKUP4 (io)